# Altium integrated library VOU_SOM_CV_V0.0.1.IntLib: 31 symbols (part 1 of 2)
Pins are listed as number, name and electrical type; pins without a type are passive.

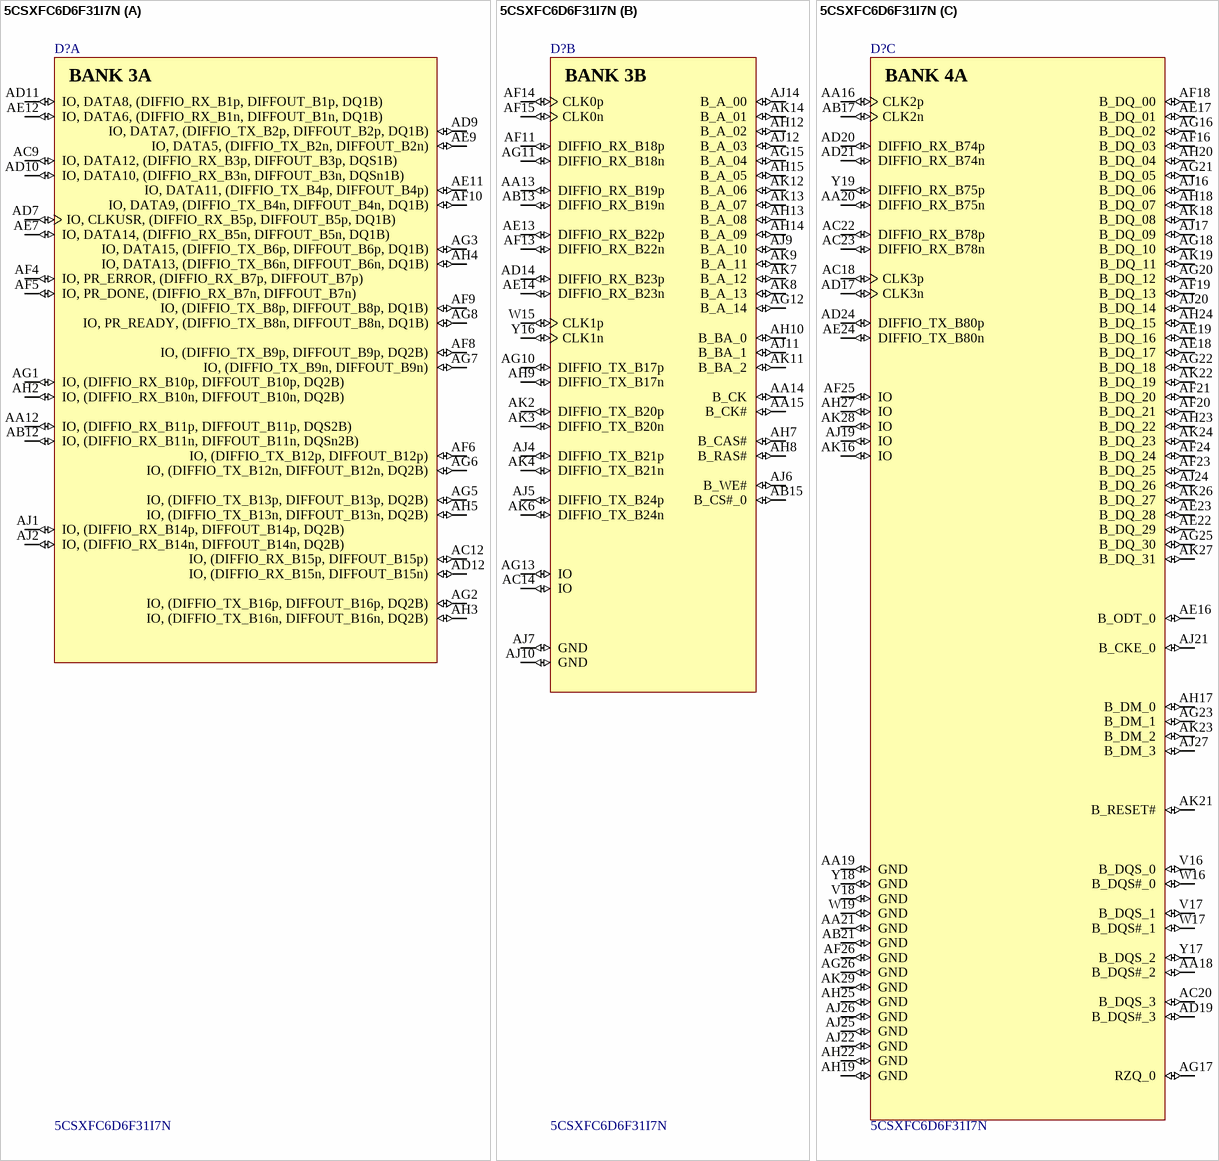
[diagram p0: symbol 5CSXFC6D6F31I7N]

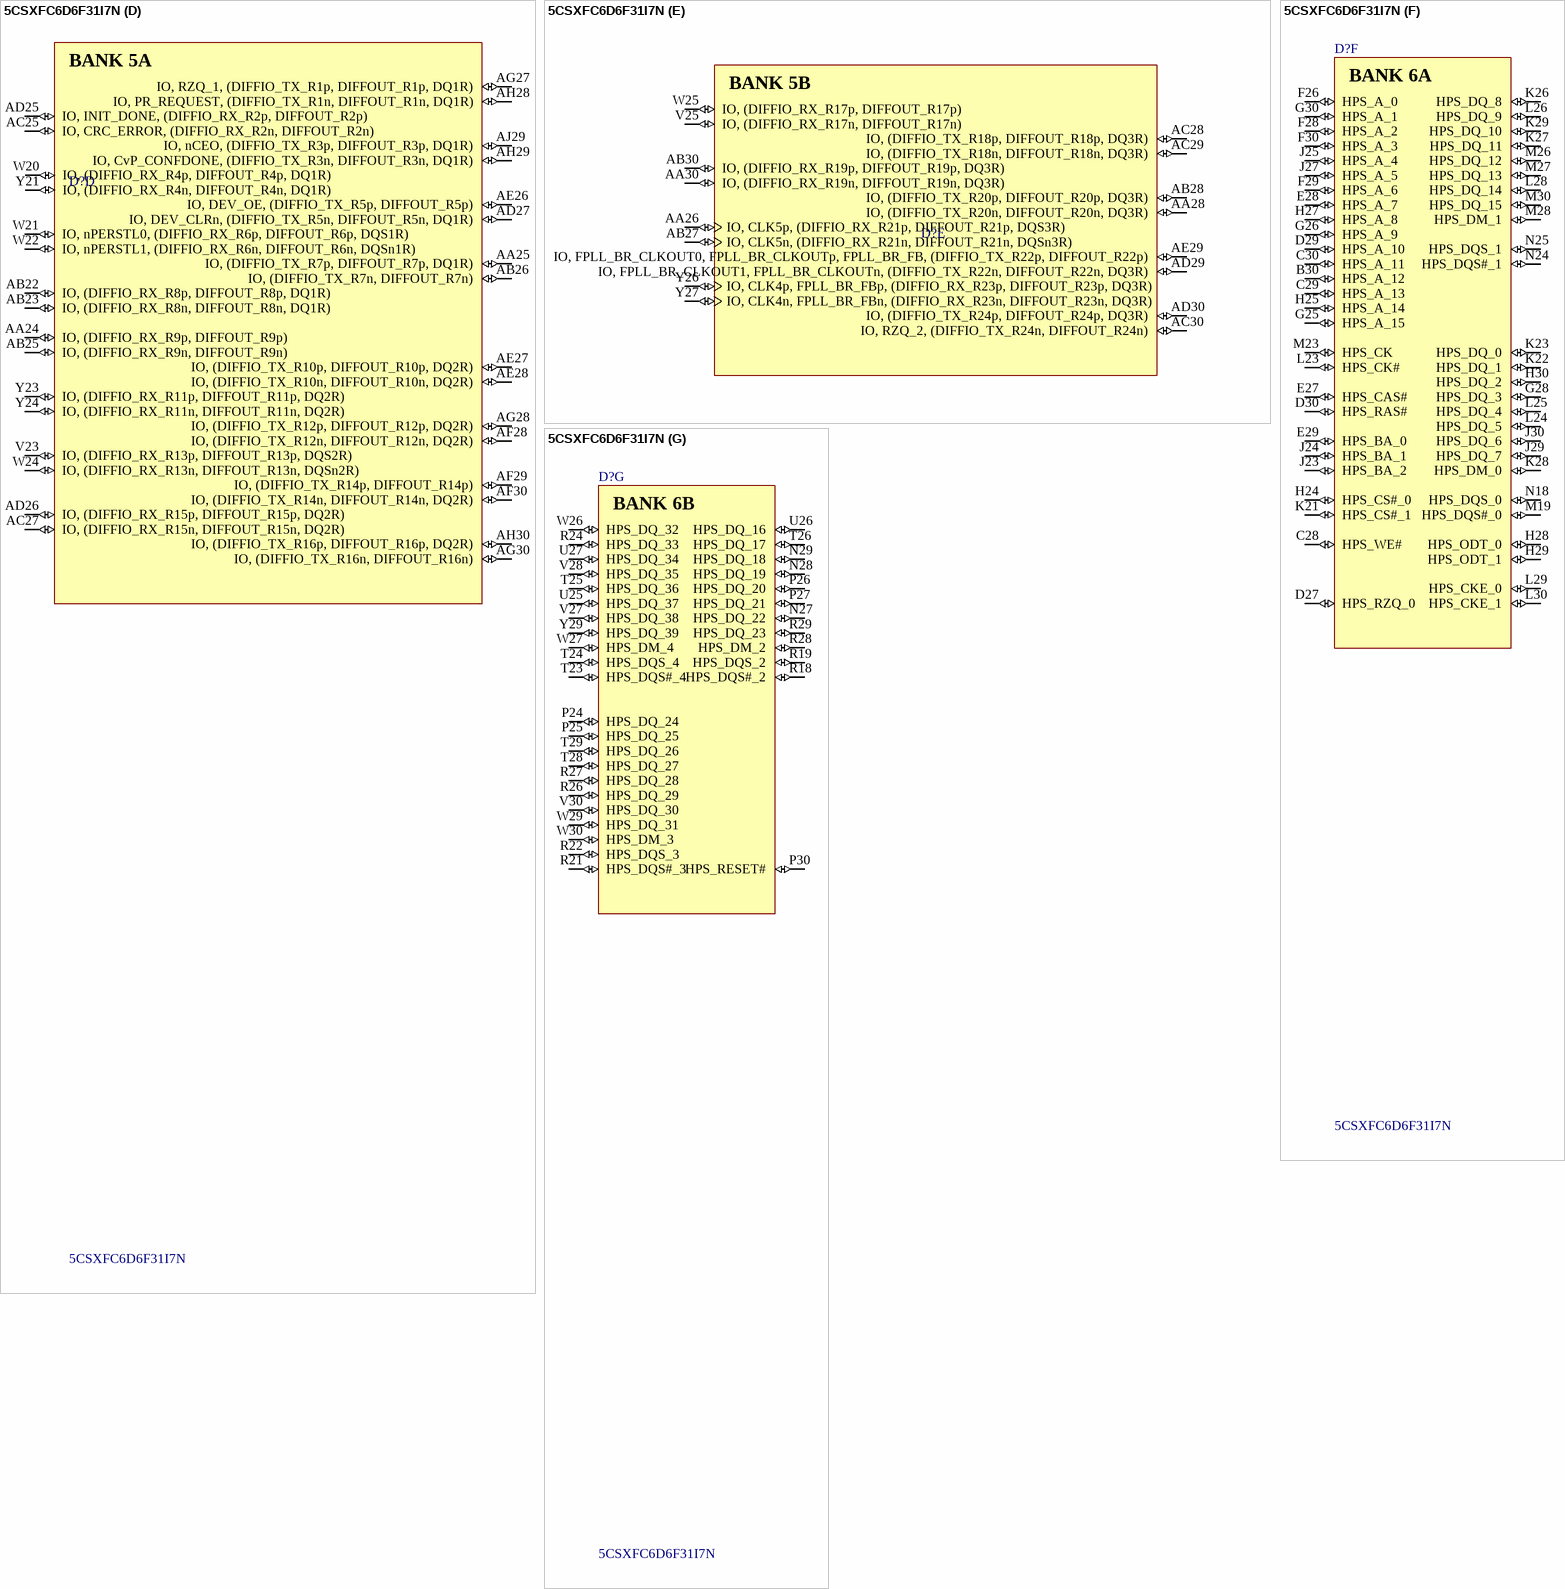
[diagram p1: symbol 5CSXFC6D6F31I7N]

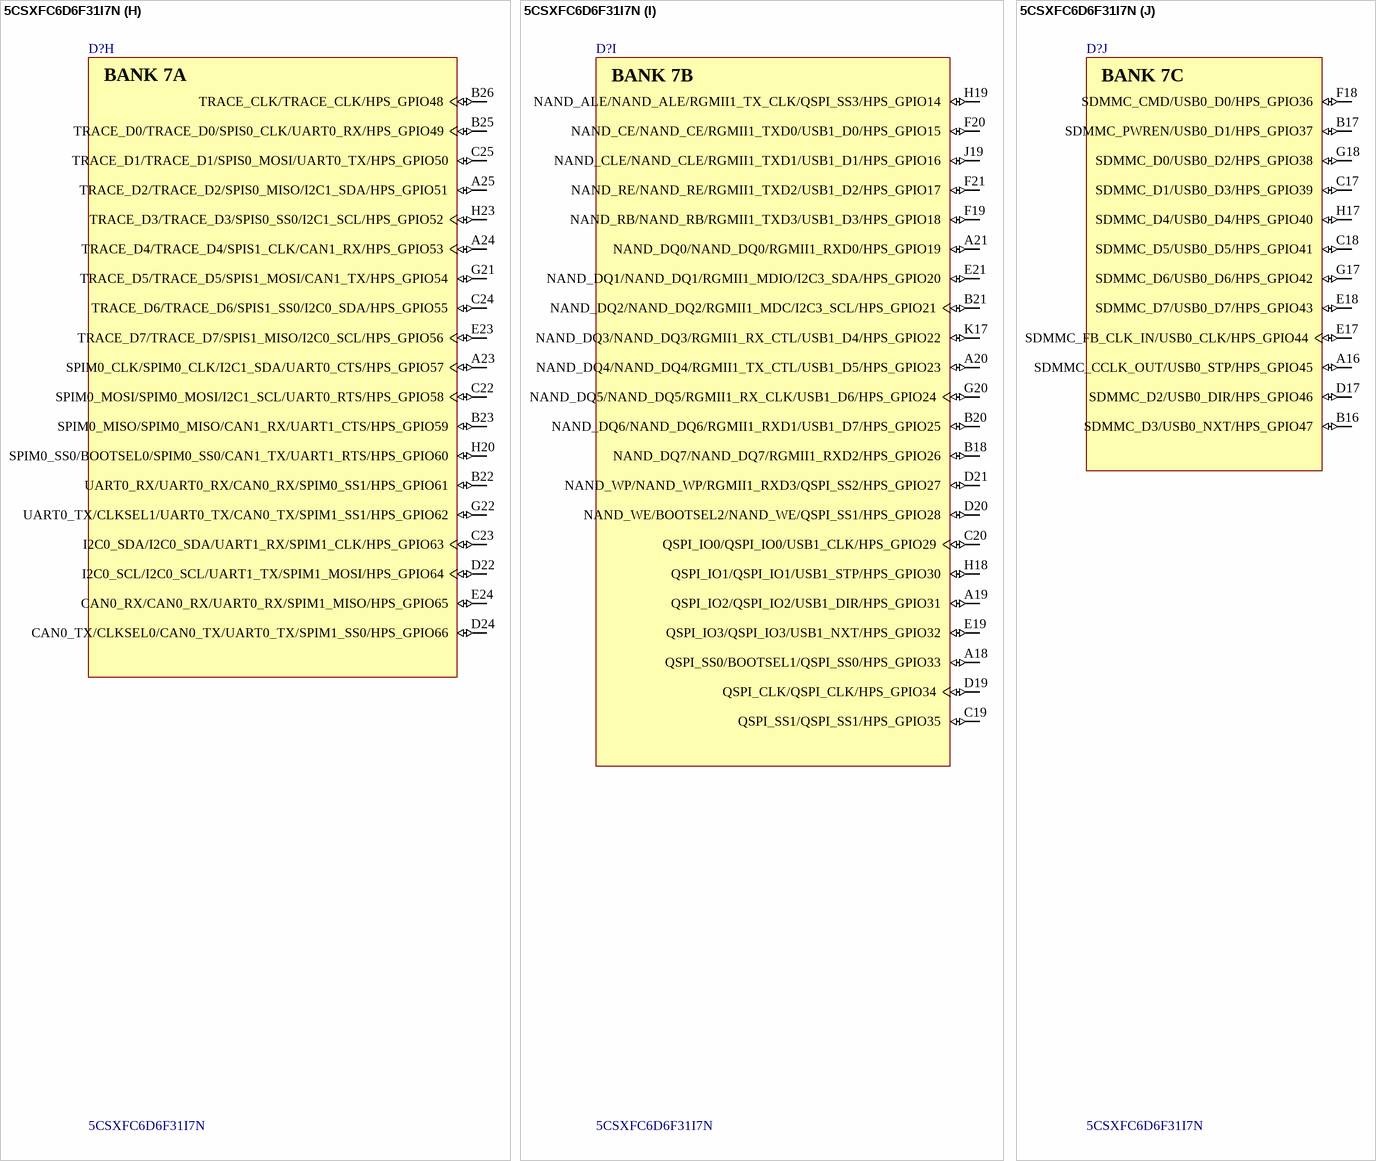
[diagram p2: symbol 5CSXFC6D6F31I7N]

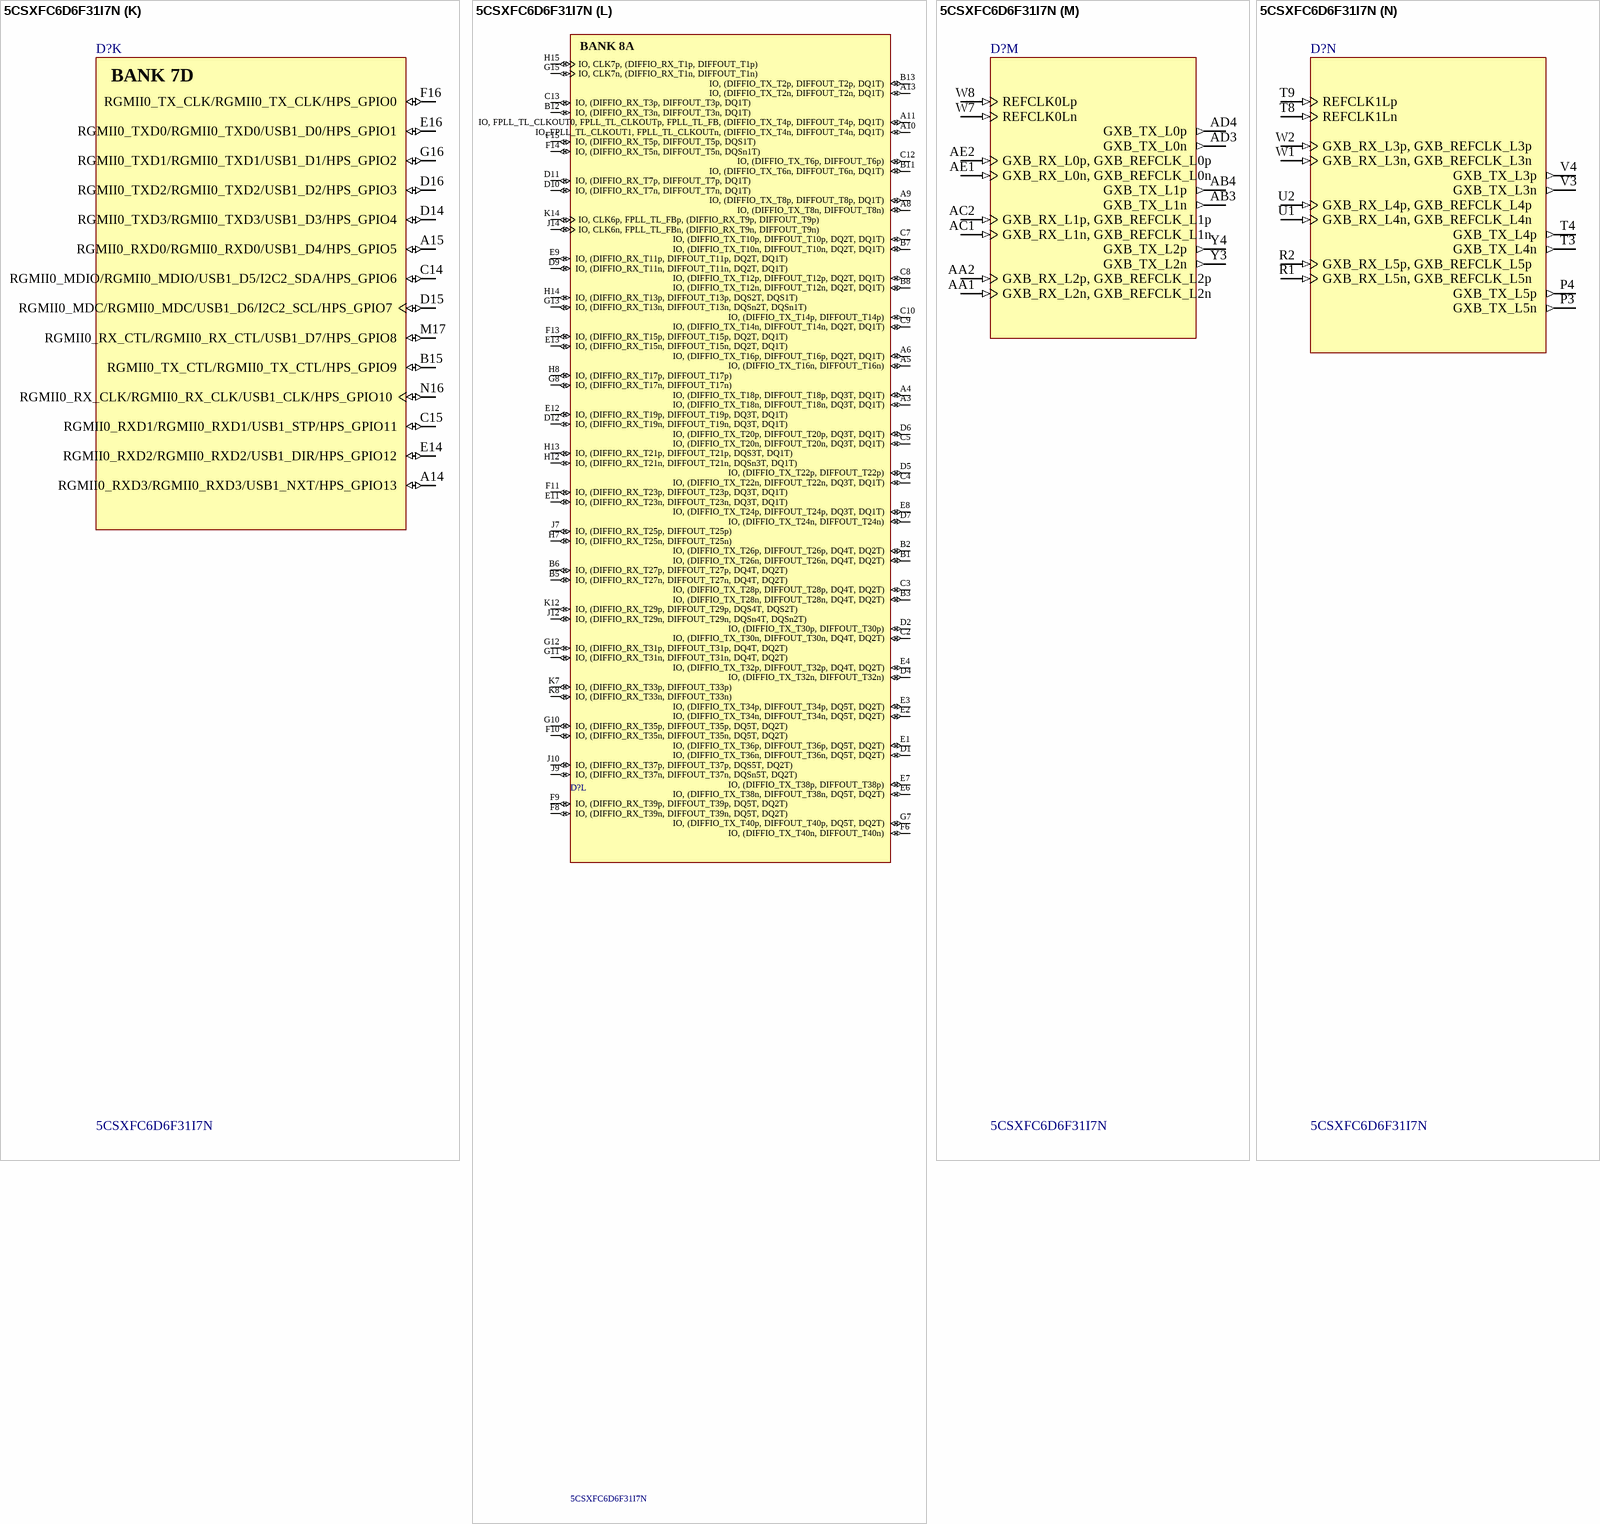
[diagram p3: symbol 5CSXFC6D6F31I7N]

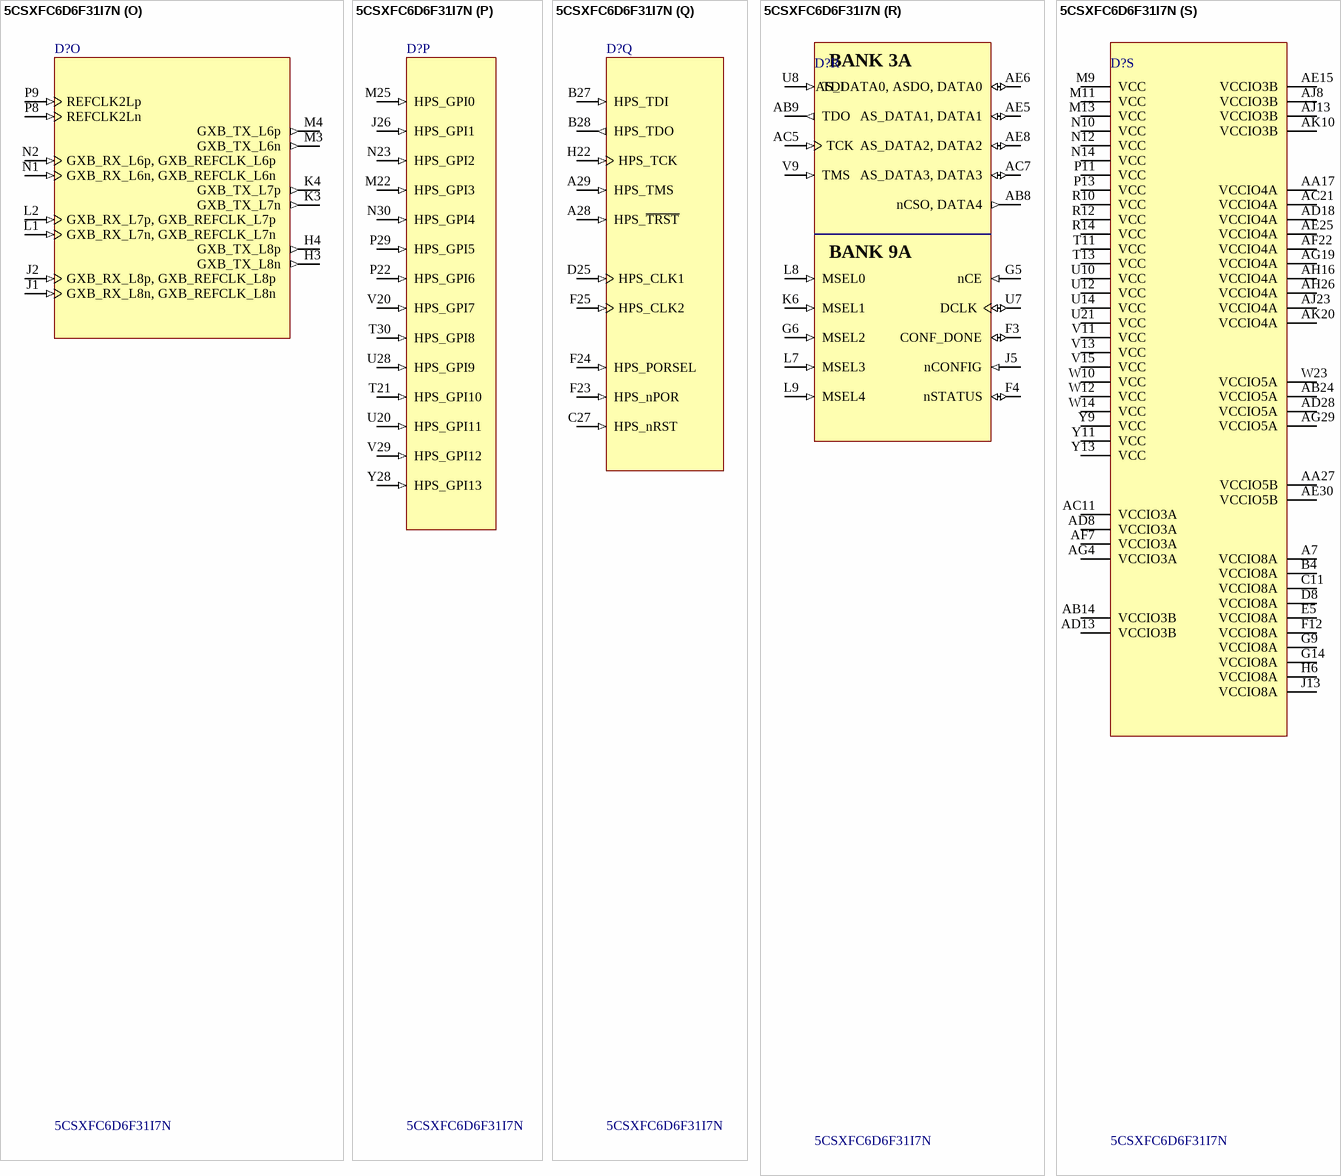
[diagram p4: symbol 5CSXFC6D6F31I7N]

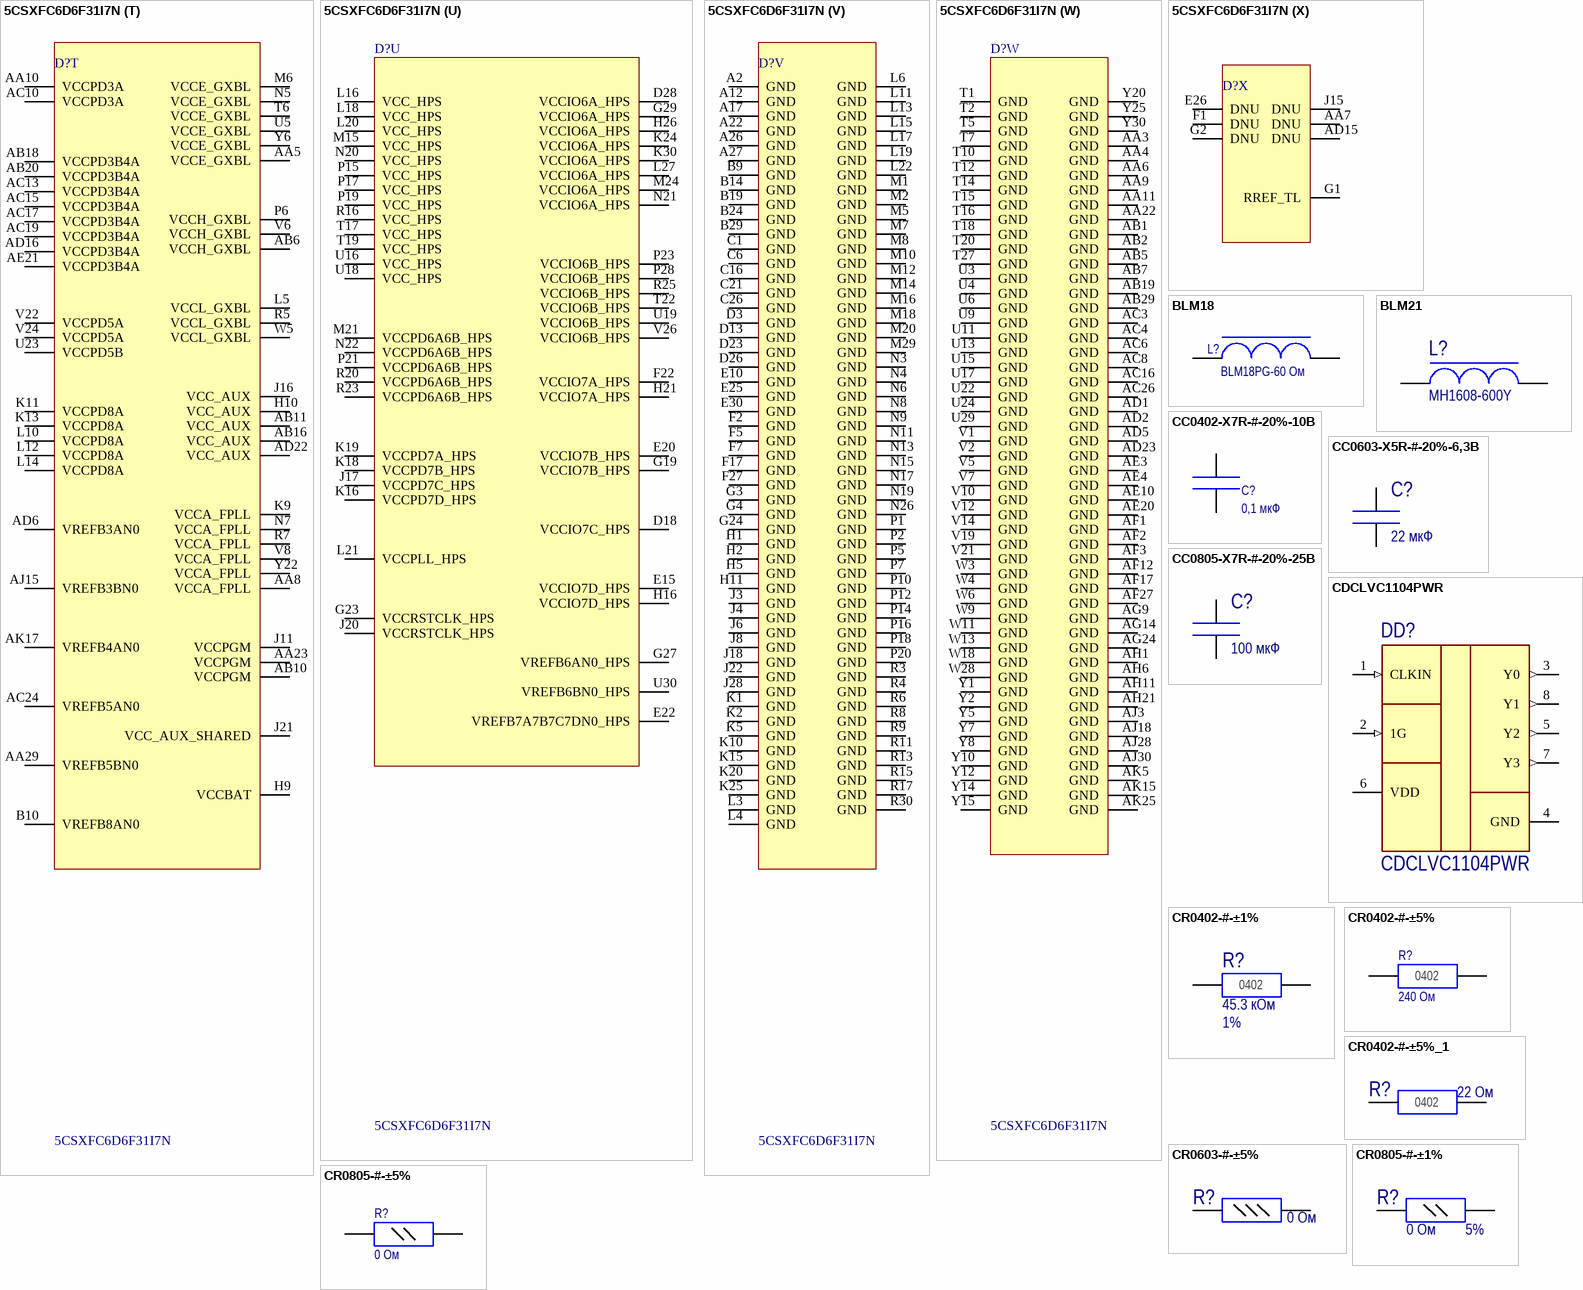
[diagram p5: symbols 5CSXFC6D6F31I7N to CR0805-#-±5%]

## 5CSXFC6D6F31I7N
designator D?
Cyclone V SX Family FPGA, 1.07 to 1.13 V Supply, 288 I/O Pins, 6 PLLs, 896-Pin FBGA, Speed Grade 7, Industrial Grade, RoHS Compliant; Manufacturer: Altera; Logic Elements (LE) (K): 110; Speed Grade: 7; DatasheetVersion: Rev. 3.4; PackageVersion: Rev. 2.0, 12/2012; PackageReference: FBGA896_A-200; PackageDescription: 896-Pin FineLine Ball-Grid Array (FBGA), Body 31 x 31 mm, Pitch 1 mm; Supplier 1: Digi-Key; Supplier Part Number 1: 5CSXFC6D6F31I7N-ND; Supplier 2: Mouser; Supplier Part Number 2: 989-5CSXFC6D6F31I7N; Device Group: 5CSXFC6; RoHS: RoHS Compliant; Subcategory: Cyclone V SX; Voltage Supply: 1.07 to 1.13 V; NexusDeviceID: 5CSXFC6D6F31I7N; Mounting Technology: Surface Mount; Code_JEDEC: MS-034; PartNumber: 5CSXFC6D6F31I7N; ComponentLink1Description: Manufacturer URL; ComponentLink1URL: http://www.altera.com; ComponentLink2Description: Datasheet; ComponentLink2URL: http://www.altera.com/literature/hb/cyclone-v/cv_51002.pdf; ComponentLink3Description: Package Specification; ComponentLink3URL: http://www.altera.com/devicepackaging/04R00435-01.pdf; ComponentLink4Description: Device Handbook URL; ComponentLink4URL: http://www.altera.com/literature/hb/cyclone-v/cyclone5_handbook.pdf; ComponentLink5Description: Device Pin-Out URL; ComponentLink5URL: http://www.altera.com/literature/dp/cyclone-v/5CSXFC6.xls; ComponentLink6Description: Product URL; ComponentLink6URL: http://www.buyaltera.com/scripts/partsearch.dll?Detail&name=5CSXFC6D6F31I7N-ND
footprint ALTR-FBGA896_A-200 (BGA, 896-Balls, Body 31x31mm, Pitch 1mm)
part A pins: AA12 IO, (DIFFIO_RX_B11p, DIFFOUT_B11p, DQS2B) (io) "3A", AB12 IO, (DIFFIO_RX_B11n, DIFFOUT_B11n, DQSn2B) (io) "3A", AC9 IO, DATA12, (DIFFIO_RX_B3p, DIFFOUT_B3p, DQS1B) (io) "3A", AC12 IO, (DIFFIO_RX_B15p, DIFFOUT_B15p) (io) "3A", AD7 IO, CLKUSR, (DIFFIO_RX_B5p, DIFFOUT_B5p, DQ1B) (io) "3A", AD9 IO, DATA7, (DIFFIO_TX_B2p, DIFFOUT_B2p, DQ1B) (io) "3A", AD10 IO, DATA10, (DIFFIO_RX_B3n, DIFFOUT_B3n, DQSn1B) (io) "3A", AD11 IO, DATA8, (DIFFIO_RX_B1p, DIFFOUT_B1p, DQ1B) (io) "3A", AD12 IO, (DIFFIO_RX_B15n, DIFFOUT_B15n) (io) "3A", AE7 IO, DATA14, (DIFFIO_RX_B5n, DIFFOUT_B5n, DQ1B) (io) "3A", AE9 IO, DATA5, (DIFFIO_TX_B2n, DIFFOUT_B2n) (io) "3A", AE11 IO, DATA11, (DIFFIO_TX_B4p, DIFFOUT_B4p) (io) "3A", AE12 IO, DATA6, (DIFFIO_RX_B1n, DIFFOUT_B1n, DQ1B) (io) "3A", AF4 IO, PR_ERROR, (DIFFIO_RX_B7p, DIFFOUT_B7p) (io) "3A", AF5 IO, PR_DONE, (DIFFIO_RX_B7n, DIFFOUT_B7n) (io) "3A", AF6 IO, (DIFFIO_TX_B12p, DIFFOUT_B12p) (io) "3A", AF8 IO, (DIFFIO_TX_B9p, DIFFOUT_B9p, DQ2B) (io) "3A", AF9 IO, (DIFFIO_TX_B8p, DIFFOUT_B8p, DQ1B) (io) "3A", AF10 IO, DATA9, (DIFFIO_TX_B4n, DIFFOUT_B4n, DQ1B) (io) "3A", AG1 IO, (DIFFIO_RX_B10p, DIFFOUT_B10p, DQ2B) (io) "3A", AG2 IO, (DIFFIO_TX_B16p, DIFFOUT_B16p, DQ2B) (io) "3A", AG3 IO, DATA15, (DIFFIO_TX_B6p, DIFFOUT_B6p, DQ1B) (io) "3A", AG5 IO, (DIFFIO_TX_B13p, DIFFOUT_B13p, DQ2B) (io) "3A", AG6 IO, (DIFFIO_TX_B12n, DIFFOUT_B12n, DQ2B) (io) "3A", AG7 IO, (DIFFIO_TX_B9n, DIFFOUT_B9n) (io) "3A", AG8 IO, PR_READY, (DIFFIO_TX_B8n, DIFFOUT_B8n, DQ1B) (io) "3A", AH2 IO, (DIFFIO_RX_B10n, DIFFOUT_B10n, DQ2B) (io) "3A", AH3 IO, (DIFFIO_TX_B16n, DIFFOUT_B16n, DQ2B) (io) "3A", AH4 IO, DATA13, (DIFFIO_TX_B6n, DIFFOUT_B6n, DQ1B) (io) "3A", AH5 IO, (DIFFIO_TX_B13n, DIFFOUT_B13n, DQ2B) (io) "3A", AJ1 IO, (DIFFIO_RX_B14p, DIFFOUT_B14p, DQ2B) (io) "3A", AJ2 IO, (DIFFIO_RX_B14n, DIFFOUT_B14n, DQ2B) (io) "3A"
part B pins: AA13 DIFFIO_RX_B19p (io) "3B", AA14 B_CK (io) "3B", AA15 B_CK# (io) "3B", AB13 DIFFIO_RX_B19n (io) "3B", AB15 B_CS#_0 (io) "3B", AC14 IO (io) "3B", AD14 DIFFIO_RX_B23p (io) "3B", AE13 DIFFIO_RX_B22p (io) "3B", AE14 DIFFIO_RX_B23n (io) "3B", AF11 DIFFIO_RX_B18p (io) "3B", AF13 DIFFIO_RX_B22n (io) "3B", AF14 CLK0p (io) "3B", AF15 CLK0n (io) "3B", AG10 DIFFIO_TX_B17p (io) "3B", AG11 DIFFIO_RX_B18n (io) "3B", AG12 B_A_14 (io) "3B", AG13 IO (io) "3B", AG15 B_A_04 (io) "3B", AH7 B_CAS# (io) "3B", AH8 B_RAS# (io) "3B", AH9 DIFFIO_TX_B17n (io) "3B", AH10 B_BA_0 (io) "3B", AH12 B_A_02 (io) "3B", AH13 B_A_08 (io) "3B", AH14 B_A_09 (io) "3B", AH15 B_A_05 (io) "3B", AJ4 DIFFIO_TX_B21p (io) "3B", AJ5 DIFFIO_TX_B24p (io) "3B", AJ6 B_WE# (io) "3B", AJ7 GND (io) "3B", AJ9 B_A_10 (io) "3B", AJ10 GND (io) "3B", AJ11 B_BA_1 (io) "3B", AJ12 B_A_03 (io) "3B", AJ14 B_A_00 (io) "3B", AK2 DIFFIO_TX_B20p (io) "3B", AK3 DIFFIO_TX_B20n (io) "3B", AK4 DIFFIO_TX_B21n (io) "3B", AK6 DIFFIO_TX_B24n (io) "3B", AK7 B_A_12 (io) "3B", AK8 B_A_13 (io) "3B", AK9 B_A_11 (io) "3B", AK11 B_BA_2 (io) "3B", AK12 B_A_06 (io) "3B", AK13 B_A_07 (io) "3B", AK14 B_A_01 (io) "3B", W15 CLK1p (io) "3B", Y16 CLK1n (io) "3B"
part C pins: AA16 CLK2p (io) "4A", AA18 B_DQS#_2 (io) "4A", AA19 GND (io) "4A", AA20 DIFFIO_RX_B75n (io) "4A", AA21 GND (io) "4A", AB17 CLK2n (io) "4A", AB21 GND (io) "4A", AC18 CLK3p (io) "4A", AC20 B_DQS_3 (io) "4A", AC22 DIFFIO_RX_B78p (io) "4A", AC23 DIFFIO_RX_B78n (io) "4A", AD17 CLK3n (io) "4A", AD19 B_DQS#_3 (io) "4A", AD20 DIFFIO_RX_B74p (io) "4A", AD21 DIFFIO_RX_B74n (io) "4A", AD24 DIFFIO_TX_B80p (io) "4A", AE16 B_ODT_0 (io) "4A", AE17 B_DQ_01 (io) "4A", AE18 B_DQ_17 (io) "4A", AE19 B_DQ_16 (io) "4A", AE22 B_DQ_29 (io) "4A", AE23 B_DQ_28 (io) "4A", AE24 DIFFIO_TX_B80n (io) "4A", AF16 B_DQ_03 (io) "4A", AF18 B_DQ_00 (io) "4A", AF19 B_DQ_13 (io) "4A", AF20 B_DQ_21 (io) "4A", AF21 B_DQ_20 (io) "4A", AF23 B_DQ_25 (io) "4A", AF24 B_DQ_24 (io) "4A", AF25 IO (io) "4A", AF26 GND (io) "4A", AG16 B_DQ_02 (io) "4A", AG17 RZQ_0 (io) "4A", AG18 B_DQ_10 (io) "4A", AG20 B_DQ_12 (io) "4A", AG21 B_DQ_05 (io) "4A", AG22 B_DQ_18 (io) "4A", AG23 B_DM_1 (io) "4A", AG25 B_DQ_30 (io) "4A", AG26 GND (io) "4A", AH17 B_DM_0 (io) "4A", AH18 B_DQ_07 (io) "4A", AH19 GND (io) "4A", AH20 B_DQ_04 (io) "4A", AH22 GND (io) "4A", AH23 B_DQ_22 (io) "4A", AH24 B_DQ_15 (io) "4A", AH25 GND (io) "4A", AH27 IO (io) "4A", AJ16 B_DQ_06 (io) "4A", AJ17 B_DQ_09 (io) "4A", AJ19 IO (io) "4A", AJ20 B_DQ_14 (io) "4A", AJ21 B_CKE_0 (io) "4A", AJ22 GND (io) "4A", AJ24 B_DQ_26 (io) "4A", AJ25 GND (io) "4A", AJ26 GND (io) "4A", AJ27 B_DM_3 (io) "4A", AK16 IO (io) "4A", AK18 B_DQ_08 (io) "4A", AK19 B_DQ_11 (io) "4A", AK21 B_RESET# (io) "4A", AK22 B_DQ_19 (io) "4A", AK23 B_DM_2 (io) "4A", AK24 B_DQ_23 (io) "4A", AK26 B_DQ_27 (io) "4A", AK27 B_DQ_31 (io) "4A", AK28 IO (io) "4A", AK29 GND (io) "4A", V16 B_DQS_0 (io) "4A", V17 B_DQS_1 (io) "4A", V18 GND (io) "4A", W16 B_DQS#_0 (io) "4A", W17 B_DQS#_1 (io) "4A", W19 GND (io) "4A", Y17 B_DQS_2 (io) "4A", Y18 GND (io) "4A", Y19 DIFFIO_RX_B75p (io) "4A"
part D pins: AA24 IO, (DIFFIO_RX_R9p, DIFFOUT_R9p) (io) "5A", AA25 IO, (DIFFIO_TX_R7p, DIFFOUT_R7p, DQ1R) (io) "5A", AB22 IO, (DIFFIO_RX_R8p, DIFFOUT_R8p, DQ1R) (io) "5A", AB23 IO, (DIFFIO_RX_R8n, DIFFOUT_R8n, DQ1R) (io) "5A", AB25 IO, (DIFFIO_RX_R9n, DIFFOUT_R9n) (io) "5A", AB26 IO, (DIFFIO_TX_R7n, DIFFOUT_R7n) (io) "5A", AC25 IO, CRC_ERROR, (DIFFIO_RX_R2n, DIFFOUT_R2n) (io) "5A", AC27 IO, (DIFFIO_RX_R15n, DIFFOUT_R15n, DQ2R) (io) "5A", AD25 IO, INIT_DONE, (DIFFIO_RX_R2p, DIFFOUT_R2p) (io) "5A", AD26 IO, (DIFFIO_RX_R15p, DIFFOUT_R15p, DQ2R) (io) "5A", AD27 IO, DEV_CLRn, (DIFFIO_TX_R5n, DIFFOUT_R5n, DQ1R) (io) "5A", AE26 IO, DEV_OE, (DIFFIO_TX_R5p, DIFFOUT_R5p) (io) "5A", AE27 IO, (DIFFIO_TX_R10p, DIFFOUT_R10p, DQ2R) (io) "5A", AE28 IO, (DIFFIO_TX_R10n, DIFFOUT_R10n, DQ2R) (io) "5A", AF28 IO, (DIFFIO_TX_R12n, DIFFOUT_R12n, DQ2R) (io) "5A", AF29 IO, (DIFFIO_TX_R14p, DIFFOUT_R14p) (io) "5A", AF30 IO, (DIFFIO_TX_R14n, DIFFOUT_R14n, DQ2R) (io) "5A", AG27 IO, RZQ_1, (DIFFIO_TX_R1p, DIFFOUT_R1p, DQ1R) (io) "5A", AG28 IO, (DIFFIO_TX_R12p, DIFFOUT_R12p, DQ2R) (io) "5A", AG30 IO, (DIFFIO_TX_R16n, DIFFOUT_R16n) (io) "5A", AH28 IO, PR_REQUEST, (DIFFIO_TX_R1n, DIFFOUT_R1n, DQ1R) (io) "5A", AH29 IO, CvP_CONFDONE, (DIFFIO_TX_R3n, DIFFOUT_R3n, DQ1R) (io) "5A", AH30 IO, (DIFFIO_TX_R16p, DIFFOUT_R16p, DQ2R) (io) "5A", AJ29 IO, nCEO, (DIFFIO_TX_R3p, DIFFOUT_R3p, DQ1R) (io) "5A", V23 IO, (DIFFIO_RX_R13p, DIFFOUT_R13p, DQS2R) (io) "5A", W20 IO, (DIFFIO_RX_R4p, DIFFOUT_R4p, DQ1R) (io) "5A", W21 IO, nPERSTL0, (DIFFIO_RX_R6p, DIFFOUT_R6p, DQS1R) (io) "5A", W22 IO, nPERSTL1, (DIFFIO_RX_R6n, DIFFOUT_R6n, DQSn1R) (io) "5A", W24 IO, (DIFFIO_RX_R13n, DIFFOUT_R13n, DQSn2R) (io) "5A", Y21 IO, (DIFFIO_RX_R4n, DIFFOUT_R4n, DQ1R) (io) "5A", Y23 IO, (DIFFIO_RX_R11p, DIFFOUT_R11p, DQ2R) (io) "5A", Y24 IO, (DIFFIO_RX_R11n, DIFFOUT_R11n, DQ2R) (io) "5A"
part E pins: AA26 IO, CLK5p, (DIFFIO_RX_R21p, DIFFOUT_R21p, DQS3R) (io) "5B", AA28 IO, (DIFFIO_TX_R20n, DIFFOUT_R20n, DQ3R) (io) "5B", AA30 IO, (DIFFIO_RX_R19n, DIFFOUT_R19n, DQ3R) (io) "5B", AB27 IO, CLK5n, (DIFFIO_RX_R21n, DIFFOUT_R21n, DQSn3R) (io) "5B", AB28 IO, (DIFFIO_TX_R20p, DIFFOUT_R20p, DQ3R) (io) "5B", AB30 IO, (DIFFIO_RX_R19p, DIFFOUT_R19p, DQ3R) (io) "5B", AC28 IO, (DIFFIO_TX_R18p, DIFFOUT_R18p, DQ3R) (io) "5B", AC29 IO, (DIFFIO_TX_R18n, DIFFOUT_R18n, DQ3R) (io) "5B", AC30 IO, RZQ_2, (DIFFIO_TX_R24n, DIFFOUT_R24n) (io) "5B", AD29 IO, FPLL_BR_CLKOUT1, FPLL_BR_CLKOUTn, (DIFFIO_TX_R22n, DIFFOUT_R22n, DQ3R) (io) "5B", AD30 IO, (DIFFIO_TX_R24p, DIFFOUT_R24p, DQ3R) (io) "5B", AE29 IO, FPLL_BR_CLKOUT0, FPLL_BR_CLKOUTp, FPLL_BR_FB, (DIFFIO_TX_R22p, DIFFOUT_R22p) (io) "5B", V25 IO, (DIFFIO_RX_R17n, DIFFOUT_R17n) (io) "5B", W25 IO, (DIFFIO_RX_R17p, DIFFOUT_R17p) (io) "5B", Y26 IO, CLK4p, FPLL_BR_FBp, (DIFFIO_RX_R23p, DIFFOUT_R23p, DQ3R) (io) "5B", Y27 IO, CLK4n, FPLL_BR_FBn, (DIFFIO_RX_R23n, DIFFOUT_R23n, DQ3R) (io) "5B"
part F pins: B30 HPS_A_12 (io) "6A", C28 HPS_WE# (io) "6A", C29 HPS_A_13 (io) "6A", C30 HPS_A_11 (io) "6A", D27 HPS_RZQ_0 (io) "6A", D29 HPS_A_10 (io) "6A", D30 HPS_RAS# (io) "6A", E27 HPS_CAS# (io) "6A", E28 HPS_A_7 (io) "6A", E29 HPS_BA_0 (io) "6A", F26 HPS_A_0 (io) "6A", F28 HPS_A_2 (io) "6A", F29 HPS_A_6 (io) "6A", F30 HPS_A_3 (io) "6A", G25 HPS_A_15 (io) "6A", G26 HPS_A_9 (io) "6A", G28 HPS_DQ_3 (io) "6A", G30 HPS_A_1 (io) "6A", H24 HPS_CS#_0 (io) "6A", H25 HPS_A_14 (io) "6A", H27 HPS_A_8 (io) "6A", H28 HPS_ODT_0 (io) "6A", H29 HPS_ODT_1 (io) "6A", H30 HPS_DQ_2 (io) "6A", J23 HPS_BA_2 (io) "6A", J24 HPS_BA_1 (io) "6A", J25 HPS_A_4 (io) "6A", J27 HPS_A_5 (io) "6A", J29 HPS_DQ_7 (io) "6A", J30 HPS_DQ_6 (io) "6A", K21 HPS_CS#_1 (io) "6A", K22 HPS_DQ_1 (io) "6A", K23 HPS_DQ_0 (io) "6A", K26 HPS_DQ_8 (io) "6A", K27 HPS_DQ_11 (io) "6A", K28 HPS_DM_0 (io) "6A", K29 HPS_DQ_10 (io) "6A", L23 HPS_CK# (io) "6A", L24 HPS_DQ_5 (io) "6A", L25 HPS_DQ_4 (io) "6A", L26 HPS_DQ_9 (io) "6A", L28 HPS_DQ_14 (io) "6A", L29 HPS_CKE_0 (io) "6A", L30 HPS_CKE_1 (io) "6A", M19 HPS_DQS#_0 (io) "6A", M23 HPS_CK (io) "6A", M26 HPS_DQ_12 (io) "6A", M27 HPS_DQ_13 (io) "6A", M28 HPS_DM_1 (io) "6A", M30 HPS_DQ_15 (io) "6A", N18 HPS_DQS_0 (io) "6A", N24 HPS_DQS#_1 (io) "6A", N25 HPS_DQS_1 (io) "6A"
part G pins: N27 HPS_DQ_22 (io) "6B", N28 HPS_DQ_19 (io) "6B", N29 HPS_DQ_18 (io) "6B", P24 HPS_DQ_24 (io) "6B", P25 HPS_DQ_25 (io) "6B", P26 HPS_DQ_20 (io) "6B", P27 HPS_DQ_21 (io) "6B", P30 HPS_RESET# (io) "6B", R18 HPS_DQS#_2 (io) "6B", R19 HPS_DQS_2 (io) "6B", R21 HPS_DQS#_3 (io) "6B", R22 HPS_DQS_3 (io) "6B", R24 HPS_DQ_33 (io) "6B", R26 HPS_DQ_29 (io) "6B", R27 HPS_DQ_28 (io) "6B", R28 HPS_DM_2 (io) "6B", R29 HPS_DQ_23 (io) "6B", T23 HPS_DQS#_4 (io) "6B", T24 HPS_DQS_4 (io) "6B", T25 HPS_DQ_36 (io) "6B", T26 HPS_DQ_17 (io) "6B", T28 HPS_DQ_27 (io) "6B", T29 HPS_DQ_26 (io) "6B", U25 HPS_DQ_37 (io) "6B", U26 HPS_DQ_16 (io) "6B", U27 HPS_DQ_34 (io) "6B", V27 HPS_DQ_38 (io) "6B", V28 HPS_DQ_35 (io) "6B", V30 HPS_DQ_30 (io) "6B", W26 HPS_DQ_32 (io) "6B", W27 HPS_DM_4 (io) "6B", W29 HPS_DQ_31 (io) "6B", W30 HPS_DM_3 (io) "6B", Y29 HPS_DQ_39 (io) "6B"
part H pins: A23 SPIM0_CLK/SPIM0_CLK/I2C1_SDA/UART0_CTS/HPS_GPIO57 (io) "7A", A24 TRACE_D4/TRACE_D4/SPIS1_CLK/CAN1_RX/HPS_GPIO53 (io) "7A", A25 TRACE_D2/TRACE_D2/SPIS0_MISO/I2C1_SDA/HPS_GPIO51 (io) "7A", B22 UART0_RX/UART0_RX/CAN0_RX/SPIM0_SS1/HPS_GPIO61 (io) "7A", B23 SPIM0_MISO/SPIM0_MISO/CAN1_RX/UART1_CTS/HPS_GPIO59 (io) "7A", B25 TRACE_D0/TRACE_D0/SPIS0_CLK/UART0_RX/HPS_GPIO49 (io) "7A", B26 TRACE_CLK/TRACE_CLK/HPS_GPIO48 (io) "7A", C22 SPIM0_MOSI/SPIM0_MOSI/I2C1_SCL/UART0_RTS/HPS_GPIO58 (io) "7A", C23 I2C0_SDA/I2C0_SDA/UART1_RX/SPIM1_CLK/HPS_GPIO63 (io) "7A", C24 TRACE_D6/TRACE_D6/SPIS1_SS0/I2C0_SDA/HPS_GPIO55 (io) "7A", C25 TRACE_D1/TRACE_D1/SPIS0_MOSI/UART0_TX/HPS_GPIO50 (io) "7A", D22 I2C0_SCL/I2C0_SCL/UART1_TX/SPIM1_MOSI/HPS_GPIO64 (io) "7A", D24 CAN0_TX/CLKSEL0/CAN0_TX/UART0_TX/SPIM1_SS0/HPS_GPIO66 (io) "7A", E23 TRACE_D7/TRACE_D7/SPIS1_MISO/I2C0_SCL/HPS_GPIO56 (io) "7A", E24 CAN0_RX/CAN0_RX/UART0_RX/SPIM1_MISO/HPS_GPIO65 (io) "7A", G21 TRACE_D5/TRACE_D5/SPIS1_MOSI/CAN1_TX/HPS_GPIO54 (io) "7A", G22 UART0_TX/CLKSEL1/UART0_TX/CAN0_TX/SPIM1_SS1/HPS_GPIO62 (io) "7A", H20 SPIM0_SS0/BOOTSEL0/SPIM0_SS0/CAN1_TX/UART1_RTS/HPS_GPIO60 (io) "7A", H23 TRACE_D3/TRACE_D3/SPIS0_SS0/I2C1_SCL/HPS_GPIO52 (io) "7A"
part I pins: A18 QSPI_SS0/BOOTSEL1/QSPI_SS0/HPS_GPIO33 (io) "7B", A19 QSPI_IO2/QSPI_IO2/USB1_DIR/HPS_GPIO31 (io) "7B", A20 NAND_DQ4/NAND_DQ4/RGMII1_TX_CTL/USB1_D5/HPS_GPIO23 (io) "7B", A21 NAND_DQ0/NAND_DQ0/RGMII1_RXD0/HPS_GPIO19 (io) "7B", B18 NAND_DQ7/NAND_DQ7/RGMII1_RXD2/HPS_GPIO26 (io) "7B", B20 NAND_DQ6/NAND_DQ6/RGMII1_RXD1/USB1_D7/HPS_GPIO25 (io) "7B", B21 NAND_DQ2/NAND_DQ2/RGMII1_MDC/I2C3_SCL/HPS_GPIO21 (io) "7B", C19 QSPI_SS1/QSPI_SS1/HPS_GPIO35 (io) "7B", C20 QSPI_IO0/QSPI_IO0/USB1_CLK/HPS_GPIO29 (io) "7B", D19 QSPI_CLK/QSPI_CLK/HPS_GPIO34 (io) "7B", D20 NAND_WE/BOOTSEL2/NAND_WE/QSPI_SS1/HPS_GPIO28 (io) "7B", D21 NAND_WP/NAND_WP/RGMII1_RXD3/QSPI_SS2/HPS_GPIO27 (io) "7B", E19 QSPI_IO3/QSPI_IO3/USB1_NXT/HPS_GPIO32 (io) "7B", E21 NAND_DQ1/NAND_DQ1/RGMII1_MDIO/I2C3_SDA/HPS_GPIO20 (io) "7B", F19 NAND_RB/NAND_RB/RGMII1_TXD3/USB1_D3/HPS_GPIO18 (io) "7B", F20 NAND_CE/NAND_CE/RGMII1_TXD0/USB1_D0/HPS_GPIO15 (io) "7B", F21 NAND_RE/NAND_RE/RGMII1_TXD2/USB1_D2/HPS_GPIO17 (io) "7B", G20 NAND_DQ5/NAND_DQ5/RGMII1_RX_CLK/USB1_D6/HPS_GPIO24 (io) "7B", H18 QSPI_IO1/QSPI_IO1/USB1_STP/HPS_GPIO30 (io) "7B", H19 NAND_ALE/NAND_ALE/RGMII1_TX_CLK/QSPI_SS3/HPS_GPIO14 (io) "7B", J19 NAND_CLE/NAND_CLE/RGMII1_TXD1/USB1_D1/HPS_GPIO16 (io) "7B", K17 NAND_DQ3/NAND_DQ3/RGMII1_RX_CTL/USB1_D4/HPS_GPIO22 (io) "7B"
part J pins: A16 SDMMC_CCLK_OUT/USB0_STP/HPS_GPIO45 (io) "7C", B16 SDMMC_D3/USB0_NXT/HPS_GPIO47 (io) "7C", B17 SDMMC_PWREN/USB0_D1/HPS_GPIO37 (io) "7C", C17 SDMMC_D1/USB0_D3/HPS_GPIO39 (io) "7C", C18 SDMMC_D5/USB0_D5/HPS_GPIO41 (io) "7C", D17 SDMMC_D2/USB0_DIR/HPS_GPIO46 (io) "7C", E17 SDMMC_FB_CLK_IN/USB0_CLK/HPS_GPIO44 (io) "7C", E18 SDMMC_D7/USB0_D7/HPS_GPIO43 (io) "7C", F18 SDMMC_CMD/USB0_D0/HPS_GPIO36 (io) "7C", G17 SDMMC_D6/USB0_D6/HPS_GPIO42 (io) "7C", G18 SDMMC_D0/USB0_D2/HPS_GPIO38 (io) "7C", H17 SDMMC_D4/USB0_D4/HPS_GPIO40 (io) "7C"
part K pins: A14 RGMII0_RXD3/RGMII0_RXD3/USB1_NXT/HPS_GPIO13 (io) "7D", A15 RGMII0_RXD0/RGMII0_RXD0/USB1_D4/HPS_GPIO5 (io) "7D", B15 RGMII0_TX_CTL/RGMII0_TX_CTL/HPS_GPIO9 (io) "7D", C14 RGMII0_MDIO/RGMII0_MDIO/USB1_D5/I2C2_SDA/HPS_GPIO6 (io) "7D", C15 RGMII0_RXD1/RGMII0_RXD1/USB1_STP/HPS_GPIO11 (io) "7D", D14 RGMII0_TXD3/RGMII0_TXD3/USB1_D3/HPS_GPIO4 (io) "7D", D15 RGMII0_MDC/RGMII0_MDC/USB1_D6/I2C2_SCL/HPS_GPIO7 (io) "7D", D16 RGMII0_TXD2/RGMII0_TXD2/USB1_D2/HPS_GPIO3 (io) "7D", E14 RGMII0_RXD2/RGMII0_RXD2/USB1_DIR/HPS_GPIO12 (io) "7D", E16 RGMII0_TXD0/RGMII0_TXD0/USB1_D0/HPS_GPIO1 (io) "7D", F16 RGMII0_TX_CLK/RGMII0_TX_CLK/HPS_GPIO0 (io) "7D", G16 RGMII0_TXD1/RGMII0_TXD1/USB1_D1/HPS_GPIO2 (io) "7D", M17 RGMII0_RX_CTL/RGMII0_RX_CTL/USB1_D7/HPS_GPIO8 (io) "7D", N16 RGMII0_RX_CLK/RGMII0_RX_CLK/USB1_CLK/HPS_GPIO10 (io) "7D"
part L pins: A3 IO, (DIFFIO_TX_T18n, DIFFOUT_T18n, DQ3T, DQ1T) (io) "8A", A4 IO, (DIFFIO_TX_T18p, DIFFOUT_T18p, DQ3T, DQ1T) (io) "8A", A5 IO, (DIFFIO_TX_T16n, DIFFOUT_T16n) (io) "8A", A6 IO, (DIFFIO_TX_T16p, DIFFOUT_T16p, DQ2T, DQ1T) (io) "8A", A8 IO, (DIFFIO_TX_T8n, DIFFOUT_T8n) (io) "8A", A9 IO, (DIFFIO_TX_T8p, DIFFOUT_T8p, DQ1T) (io) "8A", A10 IO, FPLL_TL_CLKOUT1, FPLL_TL_CLKOUTn, (DIFFIO_TX_T4n, DIFFOUT_T4n, DQ1T) (io) "8A", A11 IO, FPLL_TL_CLKOUT0, FPLL_TL_CLKOUTp, FPLL_TL_FB, (DIFFIO_TX_T4p, DIFFOUT_T4p, DQ1T) (io) "8A", A13 IO, (DIFFIO_TX_T2n, DIFFOUT_T2n, DQ1T) (io) "8A", B1 IO, (DIFFIO_TX_T26n, DIFFOUT_T26n, DQ4T, DQ2T) (io) "8A", B2 IO, (DIFFIO_TX_T26p, DIFFOUT_T26p, DQ4T, DQ2T) (io) "8A", B3 IO, (DIFFIO_TX_T28n, DIFFOUT_T28n, DQ4T, DQ2T) (io) "8A", B5 IO, (DIFFIO_RX_T27n, DIFFOUT_T27n, DQ4T, DQ2T) (io) "8A", B6 IO, (DIFFIO_RX_T27p, DIFFOUT_T27p, DQ4T, DQ2T) (io) "8A", B7 IO, (DIFFIO_TX_T10n, DIFFOUT_T10n, DQ2T, DQ1T) (io) "8A", B8 IO, (DIFFIO_TX_T12n, DIFFOUT_T12n, DQ2T, DQ1T) (io) "8A", B11 IO, (DIFFIO_TX_T6n, DIFFOUT_T6n, DQ1T) (io) "8A", B12 IO, (DIFFIO_RX_T3n, DIFFOUT_T3n, DQ1T) (io) "8A", B13 IO, (DIFFIO_TX_T2p, DIFFOUT_T2p, DQ1T) (io) "8A", C2 IO, (DIFFIO_TX_T30n, DIFFOUT_T30n, DQ4T, DQ2T) (io) "8A", C3 IO, (DIFFIO_TX_T28p, DIFFOUT_T28p, DQ4T, DQ2T) (io) "8A", C4 IO, (DIFFIO_TX_T22n, DIFFOUT_T22n, DQ3T, DQ1T) (io) "8A", C5 IO, (DIFFIO_TX_T20n, DIFFOUT_T20n, DQ3T, DQ1T) (io) "8A", C7 IO, (DIFFIO_TX_T10p, DIFFOUT_T10p, DQ2T, DQ1T) (io) "8A", C8 IO, (DIFFIO_TX_T12p, DIFFOUT_T12p, DQ2T, DQ1T) (io) "8A", C9 IO, (DIFFIO_TX_T14n, DIFFOUT_T14n, DQ2T, DQ1T) (io) "8A", C10 IO, (DIFFIO_TX_T14p, DIFFOUT_T14p) (io) "8A", C12 IO, (DIFFIO_TX_T6p, DIFFOUT_T6p) (io) "8A", C13 IO, (DIFFIO_RX_T3p, DIFFOUT_T3p, DQ1T) (io) "8A", D1 IO, (DIFFIO_TX_T36n, DIFFOUT_T36n, DQ5T, DQ2T) (io) "8A", D2 IO, (DIFFIO_TX_T30p, DIFFOUT_T30p) (io) "8A", D4 IO, (DIFFIO_TX_T32n, DIFFOUT_T32n) (io) "8A", D5 IO, (DIFFIO_TX_T22p, DIFFOUT_T22p) (io) "8A", D6 IO, (DIFFIO_TX_T20p, DIFFOUT_T20p, DQ3T, DQ1T) (io) "8A", D7 IO, (DIFFIO_TX_T24n, DIFFOUT_T24n) (io) "8A", D9 IO, (DIFFIO_RX_T11n, DIFFOUT_T11n, DQ2T, DQ1T) (io) "8A", D10 IO, (DIFFIO_RX_T7n, DIFFOUT_T7n, DQ1T) (io) "8A", D11 IO, (DIFFIO_RX_T7p, DIFFOUT_T7p, DQ1T) (io) "8A", D12 IO, (DIFFIO_RX_T19n, DIFFOUT_T19n, DQ3T, DQ1T) (io) "8A", E1 IO, (DIFFIO_TX_T36p, DIFFOUT_T36p, DQ5T, DQ2T) (io) "8A", E2 IO, (DIFFIO_TX_T34n, DIFFOUT_T34n, DQ5T, DQ2T) (io) "8A", E3 IO, (DIFFIO_TX_T34p, DIFFOUT_T34p, DQ5T, DQ2T) (io) "8A", E4 IO, (DIFFIO_TX_T32p, DIFFOUT_T32p, DQ4T, DQ2T) (io) "8A", E6 IO, (DIFFIO_TX_T38n, DIFFOUT_T38n, DQ5T, DQ2T) (io) "8A", E7 IO, (DIFFIO_TX_T38p, DIFFOUT_T38p) (io) "8A", E8 IO, (DIFFIO_TX_T24p, DIFFOUT_T24p, DQ3T, DQ1T) (io) "8A", E9 IO, (DIFFIO_RX_T11p, DIFFOUT_T11p, DQ2T, DQ1T) (io) "8A", E11 IO, (DIFFIO_RX_T23n, DIFFOUT_T23n, DQ3T, DQ1T) (io) "8A", E12 IO, (DIFFIO_RX_T19p, DIFFOUT_T19p, DQ3T, DQ1T) (io) "8A", E13 IO, (DIFFIO_RX_T15n, DIFFOUT_T15n, DQ2T, DQ1T) (io) "8A", F6 IO, (DIFFIO_TX_T40n, DIFFOUT_T40n) (io) "8A", F8 IO, (DIFFIO_RX_T39n, DIFFOUT_T39n, DQ5T, DQ2T) (io) "8A", F9 IO, (DIFFIO_RX_T39p, DIFFOUT_T39p, DQ5T, DQ2T) (io) "8A", F10 IO, (DIFFIO_RX_T35n, DIFFOUT_T35n, DQ5T, DQ2T) (io) "8A", F11 IO, (DIFFIO_RX_T23p, DIFFOUT_T23p, DQ3T, DQ1T) (io) "8A", F13 IO, (DIFFIO_RX_T15p, DIFFOUT_T15p, DQ2T, DQ1T) (io) "8A", F14 IO, (DIFFIO_RX_T5n, DIFFOUT_T5n, DQSn1T) (io) "8A", F15 IO, (DIFFIO_RX_T5p, DIFFOUT_T5p, DQS1T) (io) "8A", G7 IO, (DIFFIO_TX_T40p, DIFFOUT_T40p, DQ5T, DQ2T) (io) "8A", G8 IO, (DIFFIO_RX_T17n, DIFFOUT_T17n) (io) "8A", G10 IO, (DIFFIO_RX_T35p, DIFFOUT_T35p, DQ5T, DQ2T) (io) "8A", G11 IO, (DIFFIO_RX_T31n, DIFFOUT_T31n, DQ4T, DQ2T) (io) "8A", G12 IO, (DIFFIO_RX_T31p, DIFFOUT_T31p, DQ4T, DQ2T) (io) "8A", G13 IO, (DIFFIO_RX_T13n, DIFFOUT_T13n, DQSn2T, DQSn1T) (io) "8A", G15 IO, CLK7n, (DIFFIO_RX_T1n, DIFFOUT_T1n) (io) "8A", H7 IO, (DIFFIO_RX_T25n, DIFFOUT_T25n) (io) "8A", H8 IO, (DIFFIO_RX_T17p, DIFFOUT_T17p) (io) "8A", H12 IO, (DIFFIO_RX_T21n, DIFFOUT_T21n, DQSn3T, DQ1T) (io) "8A", H13 IO, (DIFFIO_RX_T21p, DIFFOUT_T21p, DQS3T, DQ1T) (io) "8A", H14 IO, (DIFFIO_RX_T13p, DIFFOUT_T13p, DQS2T, DQS1T) (io) "8A", H15 IO, CLK7p, (DIFFIO_RX_T1p, DIFFOUT_T1p) (io) "8A", J7 IO, (DIFFIO_RX_T25p, DIFFOUT_T25p) (io) "8A", J9 IO, (DIFFIO_RX_T37n, DIFFOUT_T37n, DQSn5T, DQ2T) (io) "8A", J10 IO, (DIFFIO_RX_T37p, DIFFOUT_T37p, DQS5T, DQ2T) (io) "8A", J12 IO, (DIFFIO_RX_T29n, DIFFOUT_T29n, DQSn4T, DQSn2T) (io) "8A", J14 IO, CLK6n, FPLL_TL_FBn, (DIFFIO_RX_T9n, DIFFOUT_T9n) (io) "8A", K7 IO, (DIFFIO_RX_T33p, DIFFOUT_T33p) (io) "8A", K8 IO, (DIFFIO_RX_T33n, DIFFOUT_T33n) (io) "8A", K12 IO, (DIFFIO_RX_T29p, DIFFOUT_T29p, DQS4T, DQS2T) (io) "8A", K14 IO, CLK6p, FPLL_TL_FBp, (DIFFIO_RX_T9p, DIFFOUT_T9p) (io) "8A"
part M pins: AA1 GXB_RX_L2n, GXB_REFCLK_L2n (in) "1", AA2 GXB_RX_L2p, GXB_REFCLK_L2p (in) "1", AB3 GXB_TX_L1n (out) "1", AB4 GXB_TX_L1p (out) "1", AC1 GXB_RX_L1n, GXB_REFCLK_L1n (in) "1", AC2 GXB_RX_L1p, GXB_REFCLK_L1p (in) "1", AD3 GXB_TX_L0n (out) "1", AD4 GXB_TX_L0p (out) "1", AE1 GXB_RX_L0n, GXB_REFCLK_L0n (in) "1", AE2 GXB_RX_L0p, GXB_REFCLK_L0p (in) "1", W7 REFCLK0Ln (in) "1", W8 REFCLK0Lp (in) "1", Y3 GXB_TX_L2n (out) "1", Y4 GXB_TX_L2p (out) "1"
part N pins: P3 GXB_TX_L5n (out) "2", P4 GXB_TX_L5p (out) "2", R1 GXB_RX_L5n, GXB_REFCLK_L5n (in) "2", R2 GXB_RX_L5p, GXB_REFCLK_L5p (in) "2", T3 GXB_TX_L4n (out) "2", T4 GXB_TX_L4p (out) "2", T8 REFCLK1Ln (in) "2", T9 REFCLK1Lp (in) "2", U1 GXB_RX_L4n, GXB_REFCLK_L4n (in) "2", U2 GXB_RX_L4p, GXB_REFCLK_L4p (in) "2", V3 GXB_TX_L3n (out) "2", V4 GXB_TX_L3p (out) "2", W1 GXB_RX_L3n, GXB_REFCLK_L3n (in) "2", W2 GXB_RX_L3p, GXB_REFCLK_L3p (in) "2"
part O pins: H3 GXB_TX_L8n (out) "3", H4 GXB_TX_L8p (out) "3", J1 GXB_RX_L8n, GXB_REFCLK_L8n (in) "3", J2 GXB_RX_L8p, GXB_REFCLK_L8p (in) "3", K3 GXB_TX_L7n (out) "3", K4 GXB_TX_L7p (out) "3", L1 GXB_RX_L7n, GXB_REFCLK_L7n (in) "3", L2 GXB_RX_L7p, GXB_REFCLK_L7p (in) "3", M3 GXB_TX_L6n (out) "3", M4 GXB_TX_L6p (out) "3", N1 GXB_RX_L6n, GXB_REFCLK_L6n (in) "3", N2 GXB_RX_L6p, GXB_REFCLK_L6p (in) "3", P8 REFCLK2Ln (in) "3", P9 REFCLK2Lp (in) "3"
part P pins: J26 HPS_GPI1 (in) "4", M22 HPS_GPI3 (in) "4", M25 HPS_GPI0 (in) "4", N23 HPS_GPI2 (in) "4", N30 HPS_GPI4 (in) "4", P22 HPS_GPI6 (in) "4", P29 HPS_GPI5 (in) "4", T21 HPS_GPI10 (in) "4", T30 HPS_GPI8 (in) "4", U20 HPS_GPI11 (in) "4", U28 HPS_GPI9 (in) "4", V20 HPS_GPI7 (in) "4", V29 HPS_GPI12 (in) "4", Y28 HPS_GPI13 (in) "4"
part Q pins: A28 HPS_~{TRST} (in) "5", A29 HPS_TMS (in) "5", B27 HPS_TDI (in) "5", B28 HPS_TDO (out) "5", C27 HPS_nRST (in) "5", D25 HPS_CLK1 (in) "5", F23 HPS_nPOR (in) "5", F24 HPS_PORSEL (in) "5", F25 HPS_CLK2 (in) "5", H22 HPS_TCK (in) "5"
part R pins: AB8 nCSO, DATA4 (out) "6", AB9 TDO (out) "6", AC5 TCK (in) "6", AC7 AS_DATA3, DATA3 (io) "6", AE5 AS_DATA1, DATA1 (io) "6", AE6 AS_DATA0, ASDO, DATA0 (io) "6", AE8 AS_DATA2, DATA2 (io) "6", F3 CONF_DONE (io) "6", F4 nSTATUS (io) "6", G5 nCE (in) "6", G6 MSEL2 (in) "6", J5 nCONFIG (in) "6", K6 MSEL1 (in) "6", L7 MSEL3 (in) "6", L8 MSEL0 (in) "6", L9 MSEL4 (in) "6", U7 DCLK (io) "6", U8 TDI (in) "6", V9 TMS (in) "6"
part S pins: A7 VCCIO8A (power) "7", AA17 VCCIO4A (power) "7", AA27 VCCIO5B (power) "7", AB14 VCCIO3B (power) "7", AB24 VCCIO5A (power) "7", AC11 VCCIO3A (power) "7", AC21 VCCIO4A (power) "7", AD8 VCCIO3A (power) "7", AD13 VCCIO3B (power) "7", AD18 VCCIO4A (power) "7", AD28 VCCIO5A (power) "7", AE15 VCCIO3B (power) "7", AE25 VCCIO4A (power) "7", AE30 VCCIO5B (power) "7", AF7 VCCIO3A (power) "7", AF22 VCCIO4A (power) "7", AG4 VCCIO3A (power) "7", AG19 VCCIO4A (power) "7", AG29 VCCIO5A (power) "7", AH16 VCCIO4A (power) "7", AH26 VCCIO4A (power) "7", AJ8 VCCIO3B (power) "7", AJ13 VCCIO3B (power) "7", AJ23 VCCIO4A (power) "7", AK10 VCCIO3B (power) "7", AK20 VCCIO4A (power) "7", B4 VCCIO8A (power) "7", C11 VCCIO8A (power) "7", D8 VCCIO8A (power) "7", E5 VCCIO8A (power) "7", F12 VCCIO8A (power) "7", G9 VCCIO8A (power) "7", G14 VCCIO8A (power) "7", H6 VCCIO8A (power) "7", J13 VCCIO8A (power) "7", M9 VCC (power) "7", M11 VCC (power) "7", M13 VCC (power) "7", N10 VCC (power) "7", N12 VCC (power) "7", N14 VCC (power) "7", P11 VCC (power) "7", P13 VCC (power) "7", R10 VCC (power) "7", R12 VCC (power) "7", R14 VCC (power) "7", T11 VCC (power) "7", T13 VCC (power) "7", U10 VCC (power) "7", U12 VCC (power) "7", U14 VCC (power) "7", U21 VCC (power) "7", V11 VCC (power) "7", V13 VCC (power) "7", V15 VCC (power) "7", W10 VCC (power) "7", W12 VCC (power) "7", W14 VCC (power) "7", W23 VCCIO5A (power) "7", Y9 VCC (power) "7", Y11 VCC (power) "7", Y13 VCC (power) "7"
part T pins: AA5 VCCE_GXBL (power) "8", AA8 VCCA_FPLL (power) "8", AA10 VCCPD3A (power) "8", AA23 VCCPGM (power) "8", AA29 VREFB5BN0 (power) "8", AB6 VCCH_GXBL (power) "8", AB10 VCCPGM (power) "8", AB11 VCC_AUX (power) "8", AB16 VCC_AUX (power) "8", AB18 VCCPD3B4A (power) "8", AB20 VCCPD3B4A (power) "8", AC10 VCCPD3A (power) "8", AC13 VCCPD3B4A (power) "8", AC15 VCCPD3B4A (power) "8", AC17 VCCPD3B4A (power) "8", AC19 VCCPD3B4A (power) "8", AC24 VREFB5AN0 (power) "8", AD6 VREFB3AN0 (power) "8", AD16 VCCPD3B4A (power) "8", AD22 VCC_AUX (power) "8", AE21 VCCPD3B4A (power) "8", AJ15 VREFB3BN0 (power) "8", AK17 VREFB4AN0 (power) "8", B10 VREFB8AN0 (power) "8", H9 VCCBAT (power) "8", H10 VCC_AUX (power) "8", J11 VCCPGM (power) "8", J16 VCC_AUX (power) "8", J21 VCC_AUX_SHARED (power) "8", K9 VCCA_FPLL (power) "8", K11 VCCPD8A (power) "8", K13 VCCPD8A (power) "8", L5 VCCL_GXBL (power) "8", L10 VCCPD8A (power) "8", L12 VCCPD8A (power) "8", L14 VCCPD8A (power) "8", M6 VCCE_GXBL (power) "8", N5 VCCE_GXBL (power) "8", N7 VCCA_FPLL (power) "8", P6 VCCH_GXBL (power) "8", R5 VCCL_GXBL (power) "8", R7 VCCA_FPLL (power) "8", T6 VCCE_GXBL (power) "8", U5 VCCE_GXBL (power) "8", U23 VCCPD5B (power) "8", V6 VCCH_GXBL (power) "8", V8 VCCA_FPLL (power) "8", V22 VCCPD5A (power) "8", V24 VCCPD5A (power) "8", W5 VCCL_GXBL (power) "8", Y6 VCCE_GXBL (power) "8", Y22 VCCA_FPLL (power) "8"
part U pins: D18 VCCIO7C_HPS (power) "9", D28 VCCIO6A_HPS (power) "9", E15 VCCIO7D_HPS (power) "9", E20 VCCIO7B_HPS (power) "9", E22 VREFB7A7B7C7DN0_HPS (power) "9", F22 VCCIO7A_HPS (power) "9", G19 VCCIO7B_HPS (power) "9", G23 VCCRSTCLK_HPS (power) "9", G27 VREFB6AN0_HPS (power) "9", G29 VCCIO6A_HPS (power) "9", H16 VCCIO7D_HPS (power) "9", H21 VCCIO7A_HPS (power) "9", H26 VCCIO6A_HPS (power) "9", J17 VCCPD7C_HPS (power) "9", J20 VCCRSTCLK_HPS (power) "9", K16 VCCPD7D_HPS (power) "9", K18 VCCPD7B_HPS (power) "9", K19 VCCPD7A_HPS (power) "9", K24 VCCIO6A_HPS (power) "9", K30 VCCIO6A_HPS (power) "9", L16 VCC_HPS (power) "9", L18 VCC_HPS (power) "9", L20 VCC_HPS (power) "9", L21 VCCPLL_HPS (power) "9", L27 VCCIO6A_HPS (power) "9", M15 VCC_HPS (power) "9", M21 VCCPD6A6B_HPS (power) "9", M24 VCCIO6A_HPS (power) "9", N20 VCC_HPS (power) "9", N21 VCCIO6A_HPS (power) "9", N22 VCCPD6A6B_HPS (power) "9", P15 VCC_HPS (power) "9", P17 VCC_HPS (power) "9", P19 VCC_HPS (power) "9", P21 VCCPD6A6B_HPS (power) "9", P23 VCCIO6B_HPS (power) "9", P28 VCCIO6B_HPS (power) "9", R16 VCC_HPS (power) "9", R20 VCCPD6A6B_HPS (power) "9", R23 VCCPD6A6B_HPS (power) "9", R25 VCCIO6B_HPS (power) "9", T17 VCC_HPS (power) "9", T19 VCC_HPS (power) "9", T22 VCCIO6B_HPS (power) "9", U16 VCC_HPS (power) "9", U18 VCC_HPS (power) "9", U19 VCCIO6B_HPS (power) "9", U30 VREFB6BN0_HPS (power) "9", V26 VCCIO6B_HPS (power) "9"
part V pins: A2 GND (power) "10", A12 GND (power) "10", A17 GND (power) "10", A22 GND (power) "10", A26 GND (power) "10", A27 GND (power) "10", B9 GND (power) "10", B14 GND (power) "10", B19 GND (power) "10", B24 GND (power) "10", B29 GND (power) "10", C1 GND (power) "10", C6 GND (power) "10", C16 GND (power) "10", C21 GND (power) "10", C26 GND (power) "10", D3 GND (power) "10", D13 GND (power) "10", D23 GND (power) "10", D26 GND (power) "10", E10 GND (power) "10", E25 GND (power) "10", E30 GND (power) "10", F2 GND (power) "10", F5 GND (power) "10", F7 GND (power) "10", F17 GND (power) "10", F27 GND (power) "10", G3 GND (power) "10", G4 GND (power) "10", G24 GND (power) "10", H1 GND (power) "10", H2 GND (power) "10", H5 GND (power) "10", H11 GND (power) "10", J3 GND (power) "10", J4 GND (power) "10", J6 GND (power) "10", J8 GND (power) "10", J18 GND (power) "10", J22 GND (power) "10", J28 GND (power) "10", K1 GND (power) "10", K2 GND (power) "10", K5 GND (power) "10", K10 GND (power) "10", K15 GND (power) "10", K20 GND (power) "10", K25 GND (power) "10", L3 GND (power) "10", L4 GND (power) "10", L6 GND (power) "10", L11 GND (power) "10", L13 GND (power) "10", L15 GND (power) "10", L17 GND (power) "10", L19 GND (power) "10", L22 GND (power) "10", M1 GND (power) "10", M2 GND (power) "10", M5 GND (power) "10", M7 GND (power) "10", M8 GND (power) "10", M10 GND (power) "10", M12 GND (power) "10", M14 GND (power) "10", M16 GND (power) "10", M18 GND (power) "10", M20 GND (power) "10", M29 GND (power) "10", N3 GND (power) "10", N4 GND (power) "10", N6 GND (power) "10", N8 GND (power) "10", N9 GND (power) "10", N11 GND (power) "10", N13 GND (power) "10", N15 GND (power) "10", N17 GND (power) "10", N19 GND (power) "10", N26 GND (power) "10", P1 GND (power) "10", P2 GND (power) "10", P5 GND (power) "10", P7 GND (power) "10", P10 GND (power) "10", P12 GND (power) "10", P14 GND (power) "10", P16 GND (power) "10", P18 GND (power) "10", P20 GND (power) "10", R3 GND (power) "10", R4 GND (power) "10", R6 GND (power) "10", R8 GND (power) "10", R9 GND (power) "10", R11 GND (power) "10", R13 GND (power) "10", R15 GND (power) "10", R17 GND (power) "10", R30 GND (power) "10"
part W pins: AA3 GND (power) "11", AA4 GND (power) "11", AA6 GND (power) "11", AA9 GND (power) "11", AA11 GND (power) "11", AA22 GND (power) "11", AB1 GND (power) "11", AB2 GND (power) "11", AB5 GND (power) "11", AB7 GND (power) "11", AB19 GND (power) "11", AB29 GND (power) "11", AC3 GND (power) "11", AC4 GND (power) "11", AC6 GND (power) "11", AC8 GND (power) "11", AC16 GND (power) "11", AC26 GND (power) "11", AD1 GND (power) "11", AD2 GND (power) "11", AD5 GND (power) "11", AD23 GND (power) "11", AE3 GND (power) "11", AE4 GND (power) "11", AE10 GND (power) "11", AE20 GND (power) "11", AF1 GND (power) "11", AF2 GND (power) "11", AF3 GND (power) "11", AF12 GND (power) "11", AF17 GND (power) "11", AF27 GND (power) "11", AG9 GND (power) "11", AG14 GND (power) "11", AG24 GND (power) "11", AH1 GND (power) "11", AH6 GND (power) "11", AH11 GND (power) "11", AH21 GND (power) "11", AJ3 GND (power) "11", AJ18 GND (power) "11", AJ28 GND (power) "11", AJ30 GND (power) "11", AK5 GND (power) "11", AK15 GND (power) "11", AK25 GND (power) "11", T1 GND (power) "11", T2 GND (power) "11", T5 GND (power) "11", T7 GND (power) "11", T10 GND (power) "11", T12 GND (power) "11", T14 GND (power) "11", T15 GND (power) "11", T16 GND (power) "11", T18 GND (power) "11", T20 GND (power) "11", T27 GND (power) "11", U3 GND (power) "11", U4 GND (power) "11", U6 GND (power) "11", U9 GND (power) "11", U11 GND (power) "11", U13 GND (power) "11", U15 GND (power) "11", U17 GND (power) "11", U22 GND (power) "11", U24 GND (power) "11", U29 GND (power) "11", V1 GND (power) "11", V2 GND (power) "11", V5 GND (power) "11", V7 GND (power) "11", V10 GND (power) "11", V12 GND (power) "11", V14 GND (power) "11", V19 GND (power) "11", V21 GND (power) "11", W3 GND (power) "11", W4 GND (power) "11", W6 GND (power) "11", W9 GND (power) "11", W11 GND (power) "11", W13 GND (power) "11", W18 GND (power) "11", W28 GND (power) "11", Y1 GND (power) "11", Y2 GND (power) "11", Y5 GND (power) "11", Y7 GND (power) "11", Y8 GND (power) "11", Y10 GND (power) "11", Y12 GND (power) "11", Y14 GND (power) "11", Y15 GND (power) "11", Y20 GND (power) "11", Y25 GND (power) "11", Y30 GND (power) "11"
part X pins: AA7 DNU "12", AD15 DNU "12", E26 DNU "12", F1 DNU "12", G1 RREF_TL "12", G2 DNU "12", J15 DNU "12"
part A text: BANK 3A
part B text: BANK 3B
part C text: BANK 4A
part D text: BANK 5A
part E text: BANK 5B
part F text: BANK 6A
part G text: BANK 6B
part H text: BANK 7A
part I text: BANK 7B
part J text: BANK 7C
part K text: BANK 7D
part L text: BANK 8A
part R text: BANK 3A; BANK 9A

## BLM18
designator L?, comment BLM18PG-60 Ом
Чип индуктивность подавления EMP; VALUE: 60 Ом; Supplier 1: Digi-Key; Supplier Part Number 1: 490-1036-2-ND
footprint CL0603 (Footprint not found)
pins: 1, 2

## BLM21
designator L?, comment MH1608-600Y
Чип индуктивность подавления EMP
footprint CL0805
pins: 1, 2

## CC0402-X7R-#-20%-10В
designator C?, comment value 0,1 мкФ  (hidden comment: CC0402-X7R-0,1 мкФ-20%-10В)
Чип конденсатор керамический; Supplier 1: Digi-Key; Supplier Part Number 1: 399-3520-1-ND
footprint CC0402(1005) (Chip Capacitor, Body 1.0x0.5mm, Height 0.33mm, IPC Medium Density)
pins: 1 +, 2 -

## CC0603-X5R-#-20%-6,3В
designator C?, comment value 22 мкФ  (hidden comment: CC0603-X5R-22 мкФ-20%-6,3В)
Чип конденсатор керамический; Vendor: TDK; Vendor P/N: C1608X5R0J226M080AC; Supplier 1: Digi-key; Supplier Part Number 1: 445-8028-2-ND
footprint CC0603
pins: 1 +, 2 -

## CC0805-X7R-#-20%-25В
designator C?, comment value 100 мкФ  (hidden comment: CC0805-X5R-100 мкФ-20%-4В)
Чип конденсатор керамический; Компэл: GRM21BR60G107ME15L; Supplier 1: Digi-Key; Supplier Part Number 1: 490-10510-2-ND
footprint CC0805 (Footprint not found)
pins: 1 +, 2 -

## CDCLVC1104PWR
designator DD?
High-Performance  Clock Buffer 1:4; Supplier 1: Digi-Key; Supplier Part Number 1: 296-27549-1-ND
footprint TSSOP-8 (TSOP, 8-Leads, Body 3.0x4.4mm, Pitch 0.65mm, IPC Medium Density)
pins: 1 CLKIN (in), 2 1G (in), 3 Y0 (out), 4 GND (power), 5 Y2 (out), 6 VDD (power), 7 Y3 (out), 8 Y1 (out)

## CR0402-#-±1%
designator R?, comment value 45.3 кОм  TOLERANCE: 1%  (hidden comment: CR0402-45.3 кОм-±1%)
Чип резистор; Maximum Working Voltage: 50 В; Supplier 1: Digi-Key; Supplier Part Number 1: 311-45.3KLRTR-ND
footprint CR0402(1005) (Chip Resistor, Body 1.0x0.5mm, Height 0.33mm, IPC Medium Density)
pins: 1 +, 2 -
text: 0402

## CR0402-#-±5%
designator R?, comment value 240 Ом  (hidden comment: CR0402-240 Ом-±5%)
Чип резистор; Maximum Working Voltage: 50 В; TOLERANCE: 5%; Supplier 1: Digi-Key; Supplier Part Number 1: 311-240JRTR-ND
footprint CR0402(1005) (Chip Resistor, Body 1.0x0.5mm, Height 0.33mm, IPC Medium Density)
pins: 1 +, 2 -
text: 0402

## CR0402-#-±5%_1
designator R?, comment value 22 Ом  (hidden comment: CR0402-22 Ом-±5%)
Чип резистор; Maximum Working Voltage: 50 В; TOLERANCE: 5%; Supplier 1: Digi-Key; Supplier Part Number 1: 311-10.0KLRDKR-ND
footprint CR0402(1005) (Chip Resistor, Body 1.0x0.5mm, Height 0.33mm, IPC Medium Density)
pins: 1 +, 2 -
text: 0402

## CR0603-#-±5%
designator R?, comment value 0 Ом  (hidden comment: CR0603-0 Ом-±5%)
Чип резистор
footprint CR0603
pins: 1 +, 2 -

## CR0805-#-±1%
designator R?, comment value 0 Ом  TOLERANCE: 5%  (hidden comment: CR0805-0 Ом-±5%)
Чип резистор
footprint CR0805
pins: 1 +, 2 -

## CR0805-#-±5%
designator R?, comment value 0 Ом  (hidden comment: CR0805-0 Ом-±5%)
Чип резистор; Supplier 1: Digi-Key; Supplier Part Number 1: 311-0.0JRDKR-ND
footprint CR0805
pins: 1 +, 2 -

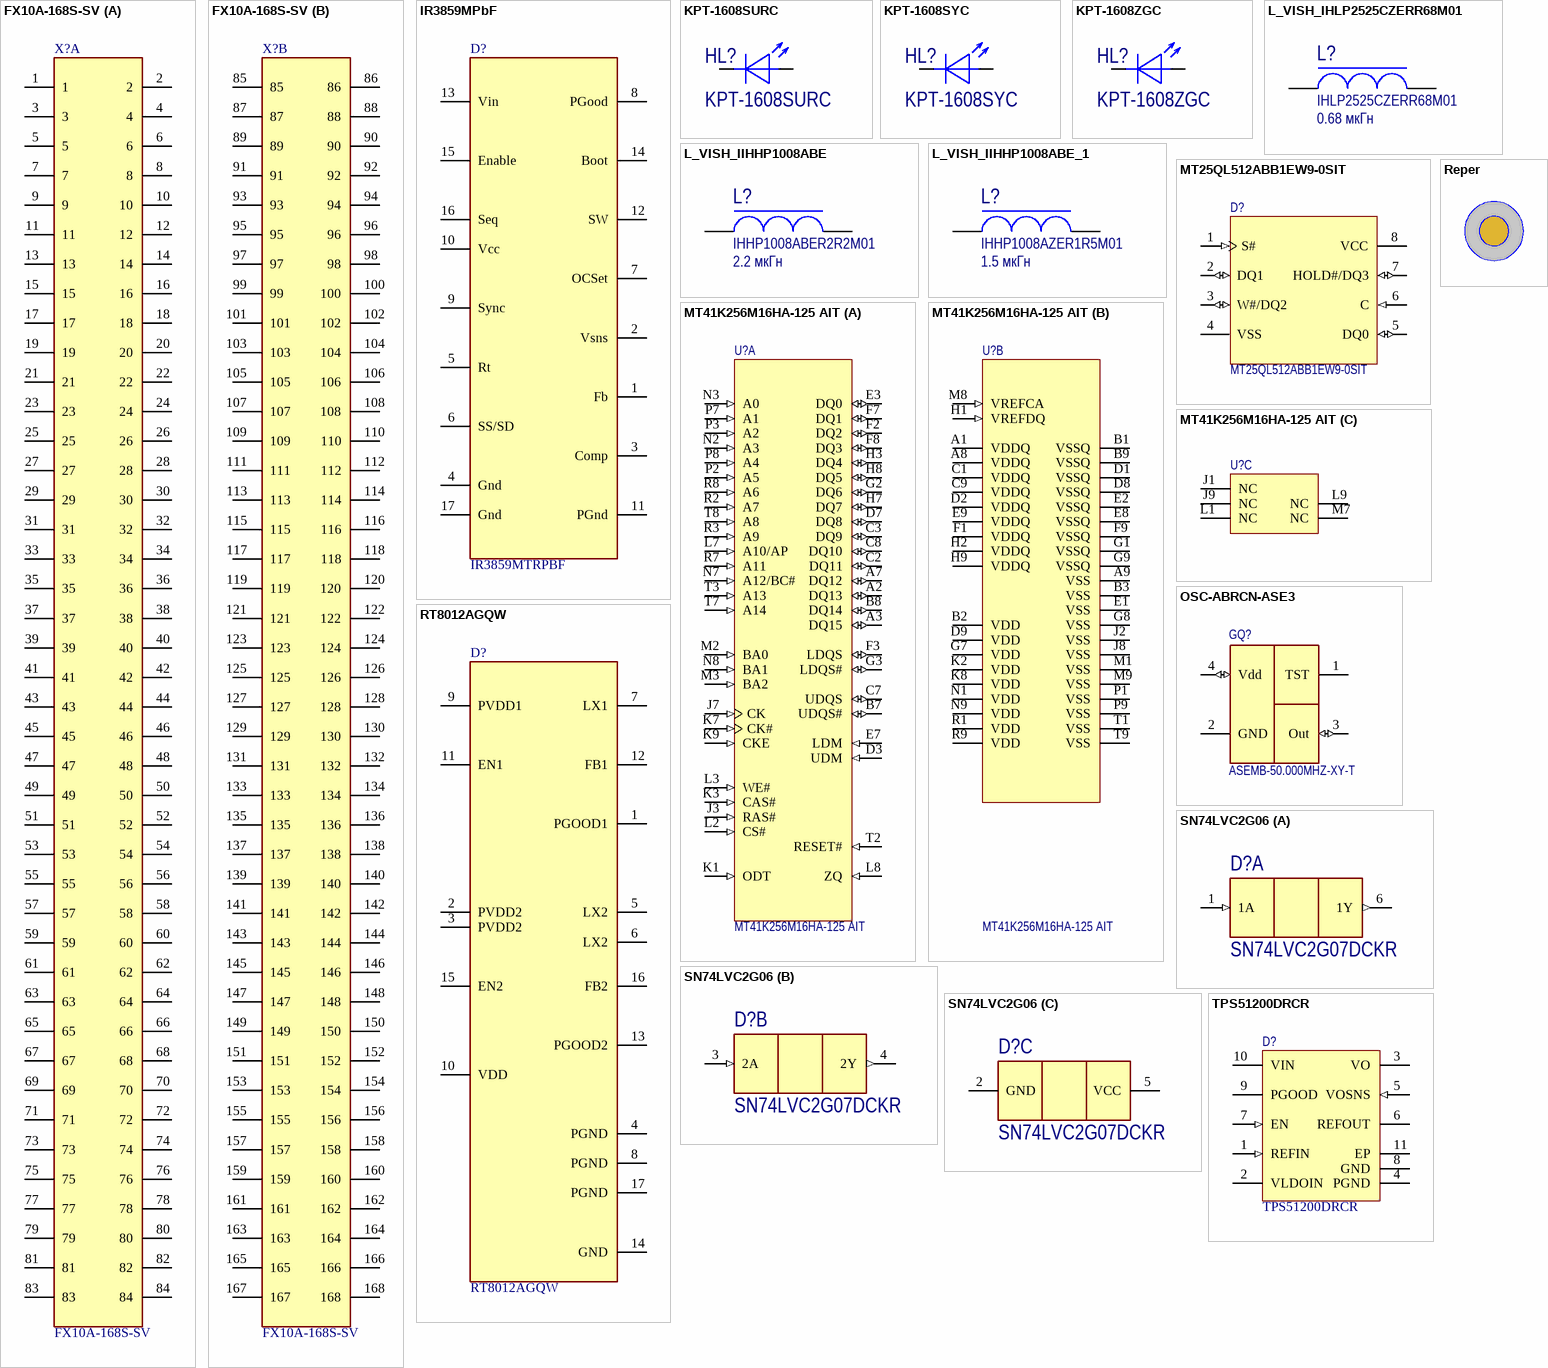
[diagram p6: symbols FX10A-168S-SV to TPS51200DRCR]

## FX10A-168S-SV
designator X?
footprint FX10A-168S-SV
part A pins: 1, 2, 3, 4, 5, 6, 7, 8, 9, 10, 11, 12, 13, 14, 15, 16, 17, 18, 19, 20, 21, 22, 23, 24, 25, 26, 27, 28, 29, 30, 31, 32, 33, 34, 35, 36, 37, 38, 39, 40, 41, 42, 43, 44, 45, 46, 47, 48, 49, 50, 51, 52, 53, 54, 55, 56, 57, 58, 59, 60, 61, 62, 63, 64, 65, 66, 67, 68, 69, 70, 71, 72, 73, 74, 75, 76, 77, 78, 79, 80, 81, 82, 83, 84
part B pins: 85, 86, 87, 88, 89, 90, 91, 92, 93, 94, 95, 96, 97, 98, 99, 100, 101, 102, 103, 104, 105, 106, 107, 108, 109, 110, 111, 112, 113, 114, 115, 116, 117, 118, 119, 120, 121, 122, 123, 124, 125, 126, 127, 128, 129, 130, 131, 132, 133, 134, 135, 136, 137, 138, 139, 140, 141, 142, 143, 144, 145, 146, 147, 148, 149, 150, 151, 152, 153, 154, 155, 156, 157, 158, 159, 160, 161, 162, 163, 164, 165, 166, 167, 168

## IR3859MPbF
designator D?, comment IR3859MTRPBF
IC REG BUCK ADJ 9A SYNC 17PQFN; Supplier: Digi-key: IR3859MTRPBFCT-ND
footprint IR3859
pins: 1 Fb, 2 Vsns, 3 Comp, 4 Gnd, 5 Rt, 6 SS/SD, 7 OCSet, 8 PGood, 9 Sync, 10 Vcc, 11 PGnd, 12 SW, 13 Vin, 14 Boot, 15 Enable, 16 Seq, 17 Gnd

## KPT-1608SURC
designator HL?
Светодиод красный SMD0603; Supplier 1: Newark; Supplier Part Number 1: 93T1595
footprint LED0603_Red
pins: 1 A, 2 K

## KPT-1608SYC
designator HL?
Светодиод желтый SMD0603; Supplier 1: Farnell; Supplier Part Number 1: 2335795
footprint LED0603_Yellow
pins: 1 A, 2 K

## KPT-1608ZGC
designator HL?
Светодиод зеленый SMD0603; Supplier 1: Farnell; Supplier Part Number 1: 2373504
footprint LED0603_GREEN
pins: 1 A, 2 K

## L_VISH_IHLP2525CZERR68M01
designator L?, comment IHLP2525CZERR68M01  value 0.68 мкГн
FIXED IND 680NH 15.5A 5.5 MOHM; Supplier 1: Digi-Key; Supplier Part Number 1: 541-1004-1-ND
footprint INDP6965X30L (Precision Wire Wound Inductor, 2-Leads, Body 6,86x6,47mm, IPC High Density)
pins: 1, 2

## L_VISH_IIHHP1008ABE
designator L?, comment IHHP1008ABER2R2M01  value 2.2 мкГн
FIXED IND 2.2UH 2.3A 90 MOHM SMD; Supplier 1: Digi-Key; Supplier Part Number 1: 541-2670-2-ND
footprint INDC2720X12L (Chip Inductor, 2-Leads, Body 2,70x2,00mm, IPC High Density)
pins: 1, 2

## L_VISH_IIHHP1008ABE_1
designator L?, comment IHHP1008AZER1R5M01  value 1.5 мкГн
FIXED IND 1.5UH 2.4A 96 MOHM SMD; Supplier 1: Digi-Key; Supplier Part Number 1: 541-2676-6-ND
footprint INDC2720X12L (Chip Inductor, 2-Leads, Body 2,70x2,00mm, IPC High Density)
pins: 1, 2

## MT25QL512ABB1EW9-0SIT
designator D?
512 Mb (x1/x2/x4) Serial NOR Flash Memory with Multi I/O, 108 MHz, 2.7 to 3.6 V, 16-pin SO16 Wide (SF), Tape & Reel; Part Family: MT25Q; Manufacturer: Micron; Density: 512Mb; Speed: 133 MHz; Voltage: 2.7V-3.6V; DatasheetVersion: Rev. J; PackageReference: 8-WDFN; PackageDescription: 8-WPDFN (6x8) (MLP8); Applications: Embedded; Package: 8-WDFN Exposed Pad; Part Status: Production; RoHS: Yes; Type: Multi I/O; Width: x1/x2/x4; Mounting Technology: Surface Mount; PartNumber: MT25QL512ABB1EW9-0SIT; ComponentLink1Description: Manufacturer URL; ComponentLink1URL: http://www.micron.com/; ComponentLink2Description: Datasheet; ComponentLink2URL: https://www.micron.com/~/media/documents/products/data-sheet/nor-flash/serial-nor/mt25q/die-rev-b/mt25q_qlkt_l_512_abb_0.pdf; ComponentLink3Description: Package Specification; ComponentLink3URL: https://www.micron.com/~/media/documents/products/data-sheet/nor-flash/serial-nor/mt25q/die-rev-b/mt25q_qlkt_l_512_abb_0.pdf
footprint SON127P800X80_HS-9N (SON, 8-Leads, Body 6,00x8,00mm, Pitch 1,27mm, Thermal Pad 4,30x3,40mm, IPC Medium Density)
pins: 1 S# (in) "Clock: Provides the timing of the serial interface. Commands, addresses, or data present at serial data inputs are latched on the rising edge of the clock. Data is shifted out on the falling edge of the clock.", 2 DQ1 (io) "Serial data:Transfers data serially out of the device. Data is shifted out on the falling edge of the clock. DQ1 is used for input/output during the following operations: DUAL INPUT FAST PROGRAM, QUAD INPUT FAST PROGRAM, (See Datasheet)", 3 W#/DQ2 (io) "Write protect: W# can be used as a protection control input or in QIO-SPI operations.Supply voltage: If VPP is in the voltage range of VPPH, the signal acts as an additional power supply, as defined in the AC Measurement (See Datasheet)", 4 VSS (power) "Ground: Reference for the VCC supply voltage.", 5 DQ0 (io) "Serial data: Transfers data serially into the device. It receives command codes, addresses, and the data to be programmed. Values are latched on the rising edge of the clock. DQ0 is used for input/output during the following (See Datasheet)", 6 C (in) "Chip select: When S# is HIGH, the device is deselected and DQ1 is at High-Z. When in extended SPI mode, with the device deselected, DQ1 is tri-stated. Unless an internal PROGRAM,ERASE, or WRITE STATUS REGISTER cycle is in (See Datasheet)", 7 HOLD#/DQ3 (io) "HOLD: Pauses any serial communications with the device without deselecting the device.DQ3: When in quad SPI mode or in extended SPI mode using quad FAST READ commands, the signal functions as DQ3,providing input/output.", 8 VCC (power) "Device core power supply: Source voltage"